# Altium schematic symbol library arthurbenemann-Atmel.SchLib: 651 symbols (part 20 of 28)
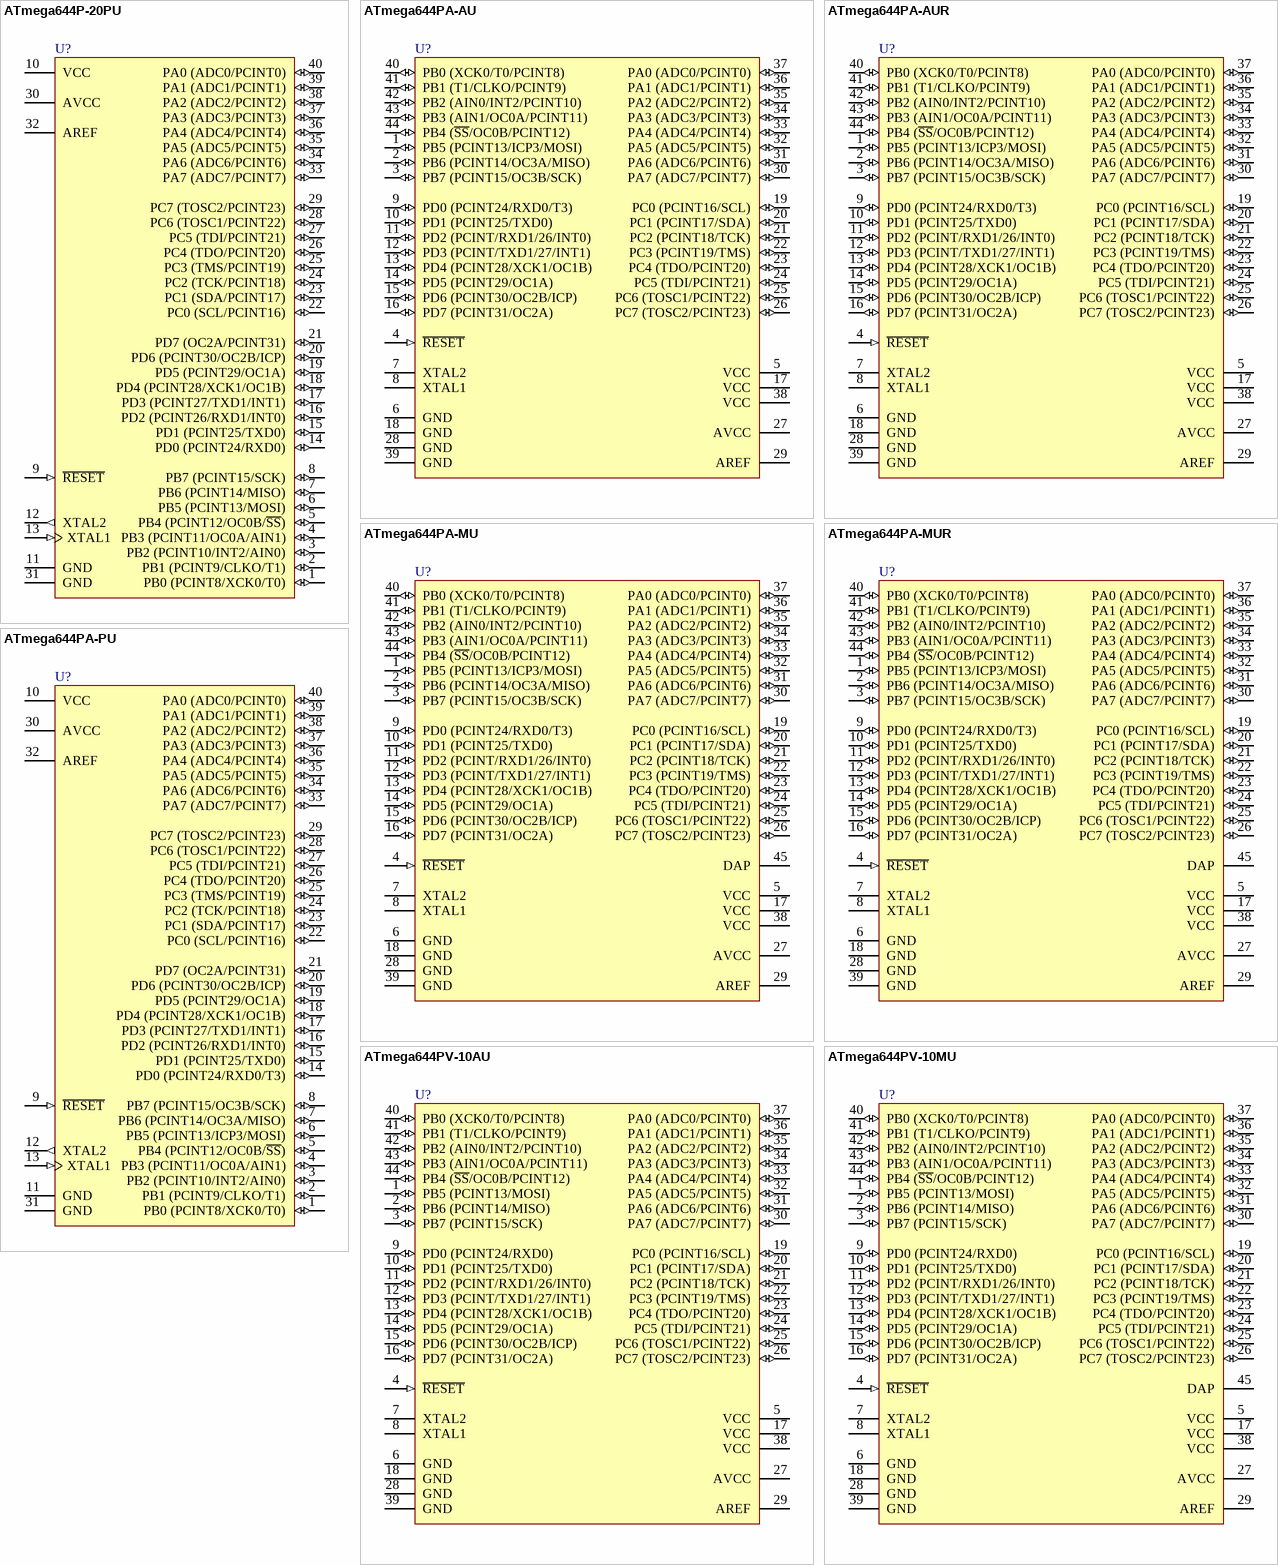
[diagram p105: symbols ATmega644P-20PU to ATmega644PV-10MU]

## ATmega644PV-10AU
designator U?
8-bit AVR Microcontroller, 1.8-5.5V, 10MHz, 64KB Flash, 2KB EEPROM, 4KB SRAM, 44-pin TQFP, Industrial Grade (-40°C to 85°C); DatasheetVersion: revO, Jun-2010; PackageVersion: revC, Oct-2010; PackageReference: 44A; PackageDescription: 44-Pin Plastic Thin Profile Quad Flat Pack, 10 x 10 x 1.0 mm Body, 0.8 mm Pitch (TQFP); Code_JEDEC: MS-026-ACB; ComponentLink1Description: Manufacturer URL; ComponentLink1URL: http://www.atmel.com/; ComponentLink2Description: ATmega164P/324P/644P Datasheet; ComponentLink2URL: http://www.atmel.com/dyn/resources/prod_documents/doc8011.pdf; ComponentLink3Description: ATmega164P/324P/644P Summary; ComponentLink3URL: http://www.atmel.com/dyn/resources/prod_documents/8011S.pdf
footprint 44A_N (Thin QFP, 44-Leads, Body 10x10mm, Pitch 0.8mm, IPC Medium Density)
footprint 44A_L (Thin QFP, 44-Leads, Body 10x10mm, Pitch 0.8mm, IPC High Density)
footprint 44A_M (Thin QFP, 44-Leads, Body 10x10mm, Pitch 0.8mm, IPC Low Density)
pins: 1 PB5 (PCINT13/MOSI) (io), 2 PB6 (PCINT14/MISO) (io), 3 PB7 (PCINT15/SCK) (io), 4 ~{RESET} (in), 5 VCC (power), 6 GND (power), 7 XTAL2, 8 XTAL1, 9 PD0 (PCINT24/RXD0) (io), 10 PD1 (PCINT25/TXD0) (io), 11 PD2 (PCINT/RXD1/26/INT0) (io), 12 PD3 (PCINT/TXD1/27/INT1) (io), 13 PD4 (PCINT28/XCK1/OC1B) (io), 14 PD5 (PCINT29/OC1A) (io), 15 PD6 (PCINT30/OC2B/ICP) (io), 16 PD7 (PCINT31/OC2A) (io), 17 VCC (power), 18 GND (power), 19 PC0 (PCINT16/SCL) (io), 20 PC1 (PCINT17/SDA) (io), 21 PC2 (PCINT18/TCK) (io), 22 PC3 (PCINT19/TMS) (io), 23 PC4 (TDO/PCINT20) (io), 24 PC5 (TDI/PCINT21) (io), 25 PC6 (TOSC1/PCINT22) (io), 26 PC7 (TOSC2/PCINT23) (io), 27 AVCC (power), 28 GND (power), 29 AREF (power), 30 PA7 (ADC7/PCINT7) (io), 31 PA6 (ADC6/PCINT6) (io), 32 PA5 (ADC5/PCINT5) (io), 33 PA4 (ADC4/PCINT4) (io), 34 PA3 (ADC3/PCINT3) (io), 35 PA2 (ADC2/PCINT2) (io), 36 PA1 (ADC1/PCINT1) (io), 37 PA0 (ADC0/PCINT0) (io), 38 VCC (power), 39 GND (power), 40 PB0 (XCK0/T0/PCINT8) (io), 41 PB1 (T1/CLKO/PCINT9) (io), 42 PB2 (AIN0/INT2/PCINT10) (io), 43 PB3 (AIN1/OC0A/PCINT11) (io), 44 PB4 (~{SS}/OC0B/PCINT12) (io)

## ATmega644PV-10MU
designator U?
8-bit AVR Microcontroller, 1.8-5.5V, 10MHz, 64KB Flash, 2KB EEPROM, 4KB SRAM, 44-pin VQFN, Industrial Grade (-40°C to 85°C); DatasheetVersion: revO, Jun-2010; PackageVersion: revH, Sep-2008; PackageReference: 44M1; PackageDescription: 44-Pin Plastic Very Thin Quad Flat No-Lead Package, 7 x 7 x 1.0 mm Body, 0.5 mm Pitch (VQFN), 5.2 mm Exposed Pad; Code_JEDEC: MO-220-VKKD-1; ComponentLink1Description: Manufacturer URL; ComponentLink1URL: http://www.atmel.com/; ComponentLink2Description: ATmega164P/324P/644P Datasheet; ComponentLink2URL: http://www.atmel.com/dyn/resources/prod_documents/doc8011.pdf; ComponentLink3Description: ATmega164P/324P/644P Summary; ComponentLink3URL: http://www.atmel.com/dyn/resources/prod_documents/8011S.pdf
footprint 44M1_N (QFN, 44-Leads, Body 7x7mm, Pitch 0.5mm, Thermal Pad 5.3x5.3mm, IPC Medium Density)
footprint 44M1_L (QFN, 44-Leads, Body 7x7mm, Pitch 0.5mm, Thermal Pad 5.3x5.3mm, IPC High Density)
footprint 44M1_M (QFN, 44-Leads, Body 7x7mm, Pitch 0.5mm, Thermal Pad 5.3x5.3mm, IPC Low Density)
pins: 1 PB5 (PCINT13/MOSI) (io), 2 PB6 (PCINT14/MISO) (io), 3 PB7 (PCINT15/SCK) (io), 4 ~{RESET} (in), 5 VCC (power), 6 GND (power), 7 XTAL2, 8 XTAL1, 9 PD0 (PCINT24/RXD0) (io), 10 PD1 (PCINT25/TXD0) (io), 11 PD2 (PCINT/RXD1/26/INT0) (io), 12 PD3 (PCINT/TXD1/27/INT1) (io), 13 PD4 (PCINT28/XCK1/OC1B) (io), 14 PD5 (PCINT29/OC1A) (io), 15 PD6 (PCINT30/OC2B/ICP) (io), 16 PD7 (PCINT31/OC2A) (io), 17 VCC (power), 18 GND (power), 19 PC0 (PCINT16/SCL) (io), 20 PC1 (PCINT17/SDA) (io), 21 PC2 (PCINT18/TCK) (io), 22 PC3 (PCINT19/TMS) (io), 23 PC4 (TDO/PCINT20) (io), 24 PC5 (TDI/PCINT21) (io), 25 PC6 (TOSC1/PCINT22) (io), 26 PC7 (TOSC2/PCINT23) (io), 27 AVCC (power), 28 GND (power), 29 AREF, 30 PA7 (ADC7/PCINT7) (io), 31 PA6 (ADC6/PCINT6) (io), 32 PA5 (ADC5/PCINT5) (io), 33 PA4 (ADC4/PCINT4) (io), 34 PA3 (ADC3/PCINT3) (io), 35 PA2 (ADC2/PCINT2) (io), 36 PA1 (ADC1/PCINT1) (io), 37 PA0 (ADC0/PCINT0) (io), 38 VCC (power), 39 GND (power), 40 PB0 (XCK0/T0/PCINT8) (io), 41 PB1 (T1/CLKO/PCINT9) (io), 42 PB2 (AIN0/INT2/PCINT10) (io), 43 PB3 (AIN1/OC0A/PCINT11) (io), 44 PB4 (~{SS}/OC0B/PCINT12) (io), 45 DAP (power)

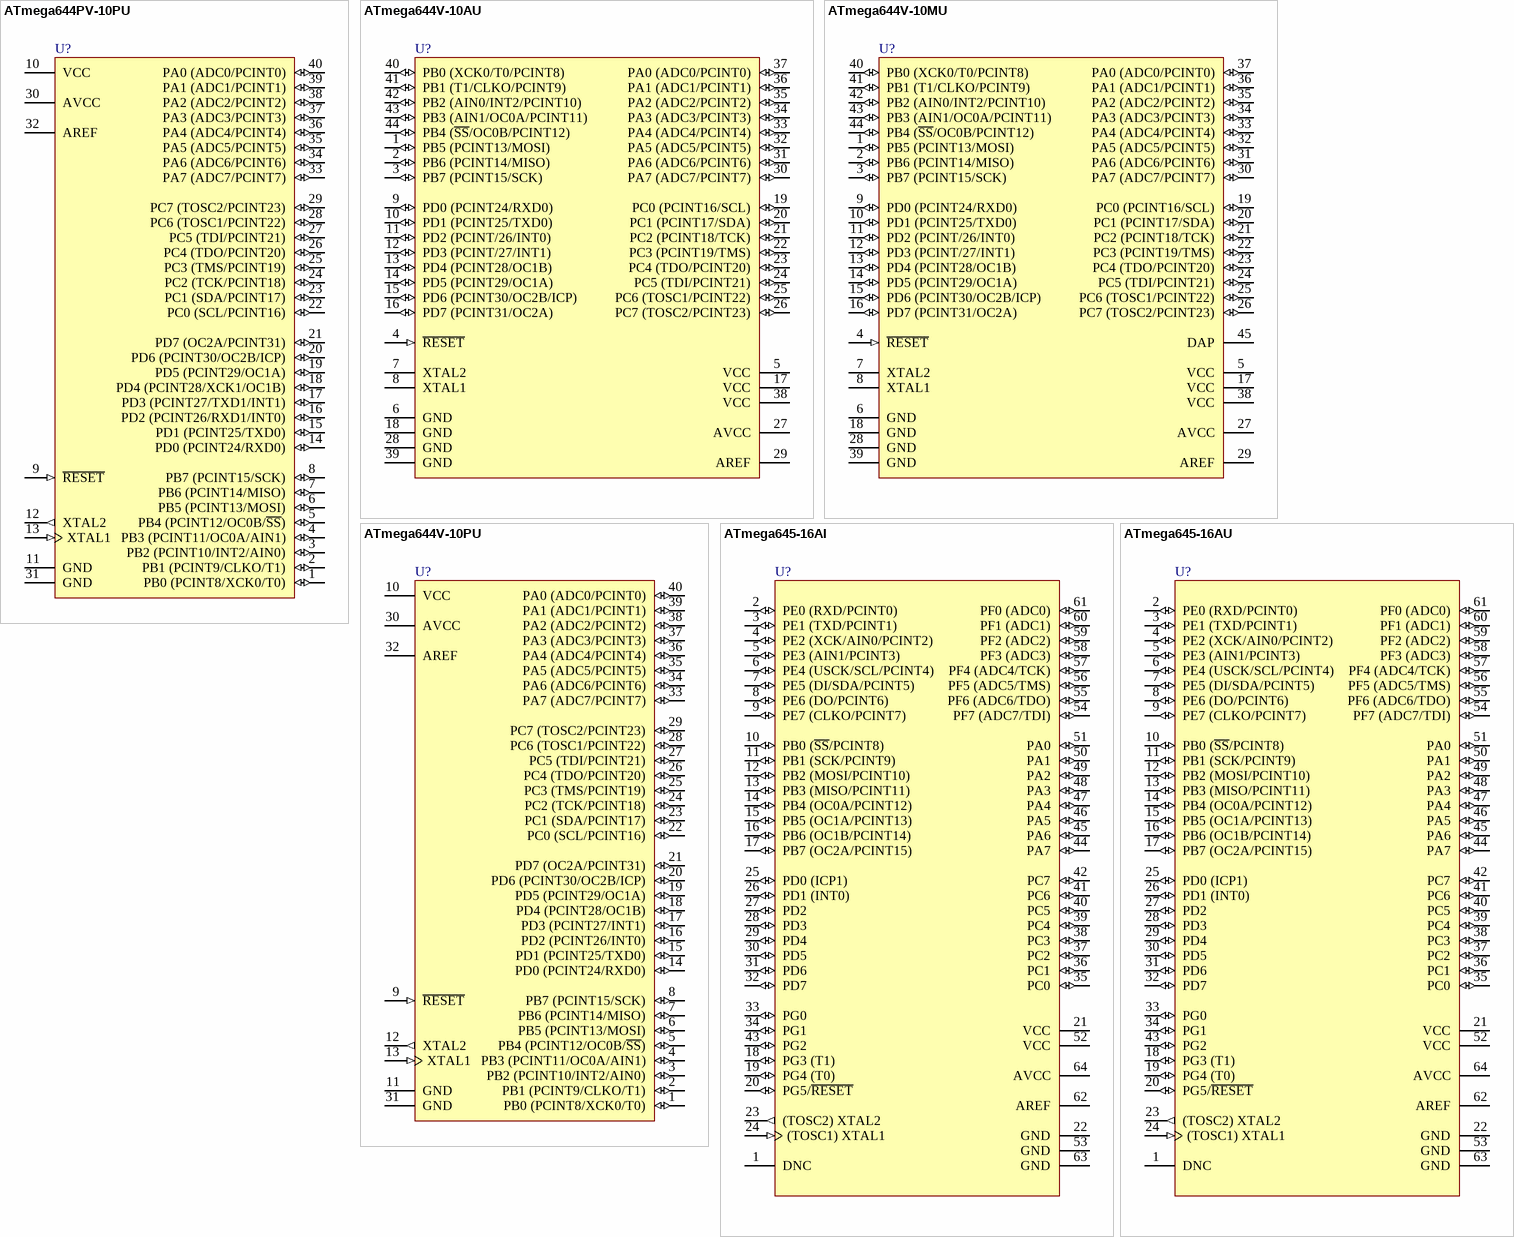
[diagram p53: symbols ATmega644PV-10PU to ATmega645-16AU]

## ATmega644PV-10PU
designator U?
8-bit AVR Microcontroller, 1.8-5.5V, 10MHz, 64KB Flash, 2KB EEPROM, 4KB SRAM, 40-pin PDIP, Industrial Grade (-40°C to 85°C); DatasheetVersion: revO, Jun-2010; PackageVersion: revB, Sep-2001; PackageReference: 40P6; PackageDescription: 40-lead (0.600"/15.24mm Wide) Plastic Dual Inline Package (PDIP); Code_JEDEC: MS-011-AC; ComponentLink1Description: Manufacturer URL; ComponentLink1URL: http://www.atmel.com/; ComponentLink2Description: ATmega164P/324P/644P Datasheet; ComponentLink2URL: http://www.atmel.com/dyn/resources/prod_documents/doc8011.pdf; ComponentLink3Description: ATmega164P/324P/644P Summary; ComponentLink3URL: http://www.atmel.com/dyn/resources/prod_documents/8011S.pdf
footprint 40P6 (DIP, 40-Leads, Row Spacing 15.24mm, Pitch 2.54mm, Body 52.2x13.95mm)
pins: 1 PB0 (PCINT8/XCK0/T0) (io), 2 PB1 (PCINT9/CLKO/T1) (io), 3 PB2 (PCINT10/INT2/AIN0) (io), 4 PB3 (PCINT11/OC0A/AIN1) (io), 5 PB4 (PCINT12/OC0B/~{SS}) (io), 6 PB5 (PCINT13/MOSI) (io), 7 PB6 (PCINT14/MISO) (io), 8 PB7 (PCINT15/SCK) (io), 9 ~{RESET} (in), 10 VCC (power), 11 GND (power), 12 XTAL2 (out), 13 XTAL1 (in), 14 PD0 (PCINT24/RXD0) (io), 15 PD1 (PCINT25/TXD0) (io), 16 PD2 (PCINT26/RXD1/INT0) (io), 17 PD3 (PCINT27/TXD1/INT1) (io), 18 PD4 (PCINT28/XCK1/OC1B) (io), 19 PD5 (PCINT29/OC1A) (io), 20 PD6 (PCINT30/OC2B/ICP) (io), 21 PD7 (OC2A/PCINT31) (io), 22 PC0 (SCL/PCINT16) (io), 23 PC1 (SDA/PCINT17) (io), 24 PC2 (TCK/PCINT18) (io), 25 PC3 (TMS/PCINT19) (io), 26 PC4 (TDO/PCINT20) (io), 27 PC5 (TDI/PCINT21) (io), 28 PC6 (TOSC1/PCINT22) (io), 29 PC7 (TOSC2/PCINT23) (io), 30 AVCC (power), 31 GND (power), 32 AREF (power), 33 PA7 (ADC7/PCINT7) (io), 34 PA6 (ADC6/PCINT6) (io), 35 PA5 (ADC5/PCINT5) (io), 36 PA4 (ADC4/PCINT4) (io), 37 PA3 (ADC3/PCINT3) (io), 38 PA2 (ADC2/PCINT2) (io), 39 PA1 (ADC1/PCINT1) (io), 40 PA0 (ADC0/PCINT0) (io)

## ATmega644V-10AU
designator U?
8-bit AVR Microcontroller, 1.8-5.5V, 10MHz, 64KB Flash, 2KB EEPROM, 4KB SRAM, 44-pin TQFP, Industrial Grade (-40°C to 85°C); DatasheetVersion: revN, Jul-2010; PackageVersion: revC, Oct-2010; PackageReference: 44A; PackageDescription: 44-Pin Plastic Thin Profile Quad Flat Pack, 10 x 10 x 1.0 mm Body, 0.8 mm Pitch (TQFP); Code_JEDEC: MS-026-ACB; ComponentLink1Description: Manufacturer URL; ComponentLink1URL: http://www.atmel.com/; ComponentLink2Description: ATmega644 Datasheet; ComponentLink2URL: http://www.atmel.com/dyn/resources/prod_documents/doc2593.pdf; ComponentLink3Description: ATmega644 Summary; ComponentLink3URL: http://www.atmel.com/dyn/resources/prod_documents/2593S.pdf
footprint 44A_N (Thin QFP, 44-Leads, Body 10x10mm, Pitch 0.8mm, IPC Medium Density)
footprint 44A_L (Thin QFP, 44-Leads, Body 10x10mm, Pitch 0.8mm, IPC High Density)
footprint 44A_M (Thin QFP, 44-Leads, Body 10x10mm, Pitch 0.8mm, IPC Low Density)
pins: 1 PB5 (PCINT13/MOSI) (io), 2 PB6 (PCINT14/MISO) (io), 3 PB7 (PCINT15/SCK) (io), 4 ~{RESET} (in), 5 VCC (power), 6 GND (power), 7 XTAL2, 8 XTAL1, 9 PD0 (PCINT24/RXD0) (io), 10 PD1 (PCINT25/TXD0) (io), 11 PD2 (PCINT/26/INT0) (io), 12 PD3 (PCINT/27/INT1) (io), 13 PD4 (PCINT28/OC1B) (io), 14 PD5 (PCINT29/OC1A) (io), 15 PD6 (PCINT30/OC2B/ICP) (io), 16 PD7 (PCINT31/OC2A) (io), 17 VCC (power), 18 GND (power), 19 PC0 (PCINT16/SCL) (io), 20 PC1 (PCINT17/SDA) (io), 21 PC2 (PCINT18/TCK) (io), 22 PC3 (PCINT19/TMS) (io), 23 PC4 (TDO/PCINT20) (io), 24 PC5 (TDI/PCINT21) (io), 25 PC6 (TOSC1/PCINT22) (io), 26 PC7 (TOSC2/PCINT23) (io), 27 AVCC (power), 28 GND (power), 29 AREF, 30 PA7 (ADC7/PCINT7) (io), 31 PA6 (ADC6/PCINT6) (io), 32 PA5 (ADC5/PCINT5) (io), 33 PA4 (ADC4/PCINT4) (io), 34 PA3 (ADC3/PCINT3) (io), 35 PA2 (ADC2/PCINT2) (io), 36 PA1 (ADC1/PCINT1) (io), 37 PA0 (ADC0/PCINT0) (io), 38 VCC (power), 39 GND (power), 40 PB0 (XCK0/T0/PCINT8) (io), 41 PB1 (T1/CLKO/PCINT9) (io), 42 PB2 (AIN0/INT2/PCINT10) (io), 43 PB3 (AIN1/OC0A/PCINT11) (io), 44 PB4 (~{SS}/OC0B/PCINT12) (io)

## ATmega644V-10MU
designator U?
8-bit AVR Microcontroller, 1.8-5.5V, 10MHz, 64KB Flash, 2KB EEPROM, 4KB SRAM, 44-pin VQFN, Industrial Grade (-40°C to 85°C); DatasheetVersion: revN, Jul-2010; PackageVersion: revH, Sep-2008; PackageReference: 44M1; PackageDescription: 44-Pin Plastic Very Thin Quad Flat No-Lead Package, 7 x 7 x 1.0 mm Body, 0.5 mm Pitch (VQFN), 5.2 mm Exposed Pad; Code_JEDEC: MO-220-VKKD-1; ComponentLink1Description: Manufacturer URL; ComponentLink1URL: http://www.atmel.com/; ComponentLink2Description: ATmega644 Datasheet; ComponentLink2URL: http://www.atmel.com/dyn/resources/prod_documents/doc2593.pdf; ComponentLink3Description: ATmega644 Summary; ComponentLink3URL: http://www.atmel.com/dyn/resources/prod_documents/2593S.pdf
footprint 44M1_N (QFN, 44-Leads, Body 7x7mm, Pitch 0.5mm, Thermal Pad 5.3x5.3mm, IPC Medium Density)
footprint 44M1_L (QFN, 44-Leads, Body 7x7mm, Pitch 0.5mm, Thermal Pad 5.3x5.3mm, IPC High Density)
footprint 44M1_M (QFN, 44-Leads, Body 7x7mm, Pitch 0.5mm, Thermal Pad 5.3x5.3mm, IPC Low Density)
pins: 1 PB5 (PCINT13/MOSI) (io), 2 PB6 (PCINT14/MISO) (io), 3 PB7 (PCINT15/SCK) (io), 4 ~{RESET} (in), 5 VCC (power), 6 GND (power), 7 XTAL2, 8 XTAL1, 9 PD0 (PCINT24/RXD0) (io), 10 PD1 (PCINT25/TXD0) (io), 11 PD2 (PCINT/26/INT0) (io), 12 PD3 (PCINT/27/INT1) (io), 13 PD4 (PCINT28/OC1B) (io), 14 PD5 (PCINT29/OC1A) (io), 15 PD6 (PCINT30/OC2B/ICP) (io), 16 PD7 (PCINT31/OC2A) (io), 17 VCC (power), 18 GND (power), 19 PC0 (PCINT16/SCL) (io), 20 PC1 (PCINT17/SDA) (io), 21 PC2 (PCINT18/TCK) (io), 22 PC3 (PCINT19/TMS) (io), 23 PC4 (TDO/PCINT20) (io), 24 PC5 (TDI/PCINT21) (io), 25 PC6 (TOSC1/PCINT22) (io), 26 PC7 (TOSC2/PCINT23) (io), 27 AVCC (power), 28 GND (power), 29 AREF, 30 PA7 (ADC7/PCINT7) (io), 31 PA6 (ADC6/PCINT6) (io), 32 PA5 (ADC5/PCINT5) (io), 33 PA4 (ADC4/PCINT4) (io), 34 PA3 (ADC3/PCINT3) (io), 35 PA2 (ADC2/PCINT2) (io), 36 PA1 (ADC1/PCINT1) (io), 37 PA0 (ADC0/PCINT0) (io), 38 VCC (power), 39 GND (power), 40 PB0 (XCK0/T0/PCINT8) (io), 41 PB1 (T1/CLKO/PCINT9) (io), 42 PB2 (AIN0/INT2/PCINT10) (io), 43 PB3 (AIN1/OC0A/PCINT11) (io), 44 PB4 (~{SS}/OC0B/PCINT12) (io), 45 DAP (power)

## ATmega644V-10PU
designator U?
8-bit AVR Microcontroller, 1.8-5.5V, 10MHz, 64KB Flash, 2KB EEPROM, 4KB SRAM, 40-pin PDIP, Industrial Grade (-40°C to 85°C); DatasheetVersion: revN, Jul-2010; PackageVersion: revB, Sep-2001; PackageReference: 40P6; PackageDescription: 40-lead (0.600"/15.24mm Wide) Plastic Dual Inline Package (PDIP); Code_JEDEC: MS-011-AC; ComponentLink1Description: Manufacturer URL; ComponentLink1URL: http://www.atmel.com/; ComponentLink2Description: ATmega644 Datasheet; ComponentLink2URL: http://www.atmel.com/dyn/resources/prod_documents/doc2593.pdf; ComponentLink3Description: ATmega644 Summary; ComponentLink3URL: http://www.atmel.com/dyn/resources/prod_documents/2593S.pdf
footprint 40P6 (DIP, 40-Leads, Row Spacing 15.24mm, Pitch 2.54mm, Body 52.2x13.95mm)
pins: 1 PB0 (PCINT8/XCK0/T0) (io), 2 PB1 (PCINT9/CLKO/T1) (io), 3 PB2 (PCINT10/INT2/AIN0) (io), 4 PB3 (PCINT11/OC0A/AIN1) (io), 5 PB4 (PCINT12/OC0B/~{SS}) (io), 6 PB5 (PCINT13/MOSI) (io), 7 PB6 (PCINT14/MISO) (io), 8 PB7 (PCINT15/SCK) (io), 9 ~{RESET} (in), 10 VCC (power), 11 GND (power), 12 XTAL2 (out), 13 XTAL1 (in), 14 PD0 (PCINT24/RXD0) (io), 15 PD1 (PCINT25/TXD0) (io), 16 PD2 (PCINT26/INT0) (io), 17 PD3 (PCINT27/INT1) (io), 18 PD4 (PCINT28/OC1B) (io), 19 PD5 (PCINT29/OC1A) (io), 20 PD6 (PCINT30/OC2B/ICP) (io), 21 PD7 (OC2A/PCINT31) (io), 22 PC0 (SCL/PCINT16) (io), 23 PC1 (SDA/PCINT17) (io), 24 PC2 (TCK/PCINT18) (io), 25 PC3 (TMS/PCINT19) (io), 26 PC4 (TDO/PCINT20) (io), 27 PC5 (TDI/PCINT21) (io), 28 PC6 (TOSC1/PCINT22) (io), 29 PC7 (TOSC2/PCINT23) (io), 30 AVCC (power), 31 GND (power), 32 AREF (power), 33 PA7 (ADC7/PCINT7) (io), 34 PA6 (ADC6/PCINT6) (io), 35 PA5 (ADC5/PCINT5) (io), 36 PA4 (ADC4/PCINT4) (io), 37 PA3 (ADC3/PCINT3) (io), 38 PA2 (ADC2/PCINT2) (io), 39 PA1 (ADC1/PCINT1) (io), 40 PA0 (ADC0/PCINT0) (io)

## ATmega645-16AI
designator U?
8-bit AVR Microcontroller, 2.7-5.5V, 64KB Flash, 2KB EEPROM, 4KB SRAM, 64-pin TQFP, Industrial Grade (-40°C to 85°C); DatasheetVersion: revL, Aug-2007; PackageVersion: revC, Oct-2010; PackageReference: 64A; PackageDescription: 64-Pin Plastic Thin Profile Quad Flat Pack, 14 x 14 x 1.0 mm Body, 0.8 mm Pitch (TQFP); Code_JEDEC: MS-026-AEB; ComponentLink1Description: Manufacturer URL; ComponentLink1URL: http://www.atmel.com/
footprint 64A_N (Thin QFP, 64-Leads, Body 14x14mm, Pitch 0.8mm, IPC Medium Density)
footprint 64A_L (Thin QFP, 64-Leads, Body 14x14mm, Pitch 0.8mm, IPC High Density)
footprint 64A_M (Thin QFP, 64-Leads, Body 14x14mm, Pitch 0.8mm, IPC Low Density)
pins: 1 DNC, 2 PE0 (RXD/PCINT0) (io), 3 PE1 (TXD/PCINT1) (io), 4 PE2 (XCK/AIN0/PCINT2) (io), 5 PE3 (AIN1/PCINT3) (io), 6 PE4 (USCK/SCL/PCINT4) (io), 7 PE5 (DI/SDA/PCINT5) (io), 8 PE6 (DO/PCINT6) (io), 9 PE7 (CLKO/PCINT7) (io), 10 PB0 (~{SS}/PCINT8) (io), 11 PB1 (SCK/PCINT9) (io), 12 PB2 (MOSI/PCINT10) (io), 13 PB3 (MISO/PCINT11) (io), 14 PB4 (OC0A/PCINT12) (io), 15 PB5 (OC1A/PCINT13) (io), 16 PB6 (OC1B/PCINT14) (io), 17 PB7 (OC2A/PCINT15) (io), 18 PG3 (T1) (io), 19 PG4 (T0) (io), 20 PG5/~{RESET} (io), 21 VCC (power), 22 GND (power), 23 (TOSC2) XTAL2 (out), 24 (TOSC1) XTAL1 (in), 25 PD0 (ICP1) (io), 26 PD1 (INT0) (io), 27 PD2 (io), 28 PD3 (io), 29 PD4 (io), 30 PD5 (io), 31 PD6 (io), 32 PD7 (io), 33 PG0 (io), 34 PG1 (io), 35 PC0 (io), 36 PC1 (io), 37 PC2 (io), 38 PC3 (io), 39 PC4 (io), 40 PC5 (io), 41 PC6 (io), 42 PC7 (io), 43 PG2 (io), 44 PA7 (io), 45 PA6 (io), 46 PA5 (io), 47 PA4 (io), 48 PA3 (io), 49 PA2 (io), 50 PA1 (io), 51 PA0 (io), 52 VCC (power), 53 GND (power), 54 PF7 (ADC7/TDI) (io), 55 PF6 (ADC6/TDO) (io), 56 PF5 (ADC5/TMS) (io), 57 PF4 (ADC4/TCK) (io), 58 PF3 (ADC3) (io), 59 PF2 (ADC2) (io), 60 PF1 (ADC1) (io), 61 PF0 (ADC0) (io), 62 AREF (power), 63 GND (power), 64 AVCC (power)

## ATmega645-16AU
designator U?
8-bit AVR Microcontroller, 2.7-5.5V, 64KB Flash, 2KB EEPROM, 4KB SRAM, 64-pin TQFP, Industrial Grade (-40°C to 85°C); DatasheetVersion: revN, May-2011; PackageVersion: revC, Oct-2010; PackageReference: 64A; PackageDescription: 64-Pin Plastic Thin Profile Quad Flat Pack, 14 x 14 x 1.0 mm Body, 0.8 mm Pitch (TQFP); Code_JEDEC: MS-026-AEB; ComponentLink1Description: Manufacturer URL; ComponentLink1URL: http://www.atmel.com/; ComponentLink2Description: ATmega325/3250/645/6450 Datasheet; ComponentLink2URL: http://www.atmel.com/dyn/resources/prod_documents/doc2570.pdf; ComponentLink3Description: ATmega325/3250/645/6540 Summary; ComponentLink3URL: http://www.atmel.com/dyn/resources/prod_documents/2570S.pdf
footprint 64A_N (Thin QFP, 64-Leads, Body 14x14mm, Pitch 0.8mm, IPC Medium Density)
footprint 64A_L (Thin QFP, 64-Leads, Body 14x14mm, Pitch 0.8mm, IPC High Density)
footprint 64A_M (Thin QFP, 64-Leads, Body 14x14mm, Pitch 0.8mm, IPC Low Density)
pins: 1 DNC, 2 PE0 (RXD/PCINT0) (io), 3 PE1 (TXD/PCINT1) (io), 4 PE2 (XCK/AIN0/PCINT2) (io), 5 PE3 (AIN1/PCINT3) (io), 6 PE4 (USCK/SCL/PCINT4) (io), 7 PE5 (DI/SDA/PCINT5) (io), 8 PE6 (DO/PCINT6) (io), 9 PE7 (CLKO/PCINT7) (io), 10 PB0 (~{SS}/PCINT8) (io), 11 PB1 (SCK/PCINT9) (io), 12 PB2 (MOSI/PCINT10) (io), 13 PB3 (MISO/PCINT11) (io), 14 PB4 (OC0A/PCINT12) (io), 15 PB5 (OC1A/PCINT13) (io), 16 PB6 (OC1B/PCINT14) (io), 17 PB7 (OC2A/PCINT15) (io), 18 PG3 (T1) (io), 19 PG4 (T0) (io), 20 PG5/~{RESET} (io), 21 VCC (power), 22 GND (power), 23 (TOSC2) XTAL2 (out), 24 (TOSC1) XTAL1 (in), 25 PD0 (ICP1) (io), 26 PD1 (INT0) (io), 27 PD2 (io), 28 PD3 (io), 29 PD4 (io), 30 PD5 (io), 31 PD6 (io), 32 PD7 (io), 33 PG0 (io), 34 PG1 (io), 35 PC0 (io), 36 PC1 (io), 37 PC2 (io), 38 PC3 (io), 39 PC4 (io), 40 PC5 (io), 41 PC6 (io), 42 PC7 (io), 43 PG2 (io), 44 PA7 (io), 45 PA6 (io), 46 PA5 (io), 47 PA4 (io), 48 PA3 (io), 49 PA2 (io), 50 PA1 (io), 51 PA0 (io), 52 VCC (power), 53 GND (power), 54 PF7 (ADC7/TDI) (io), 55 PF6 (ADC6/TDO) (io), 56 PF5 (ADC5/TMS) (io), 57 PF4 (ADC4/TCK) (io), 58 PF3 (ADC3) (io), 59 PF2 (ADC2) (io), 60 PF1 (ADC1) (io), 61 PF0 (ADC0) (io), 62 AREF (power), 63 GND (power), 64 AVCC (power)

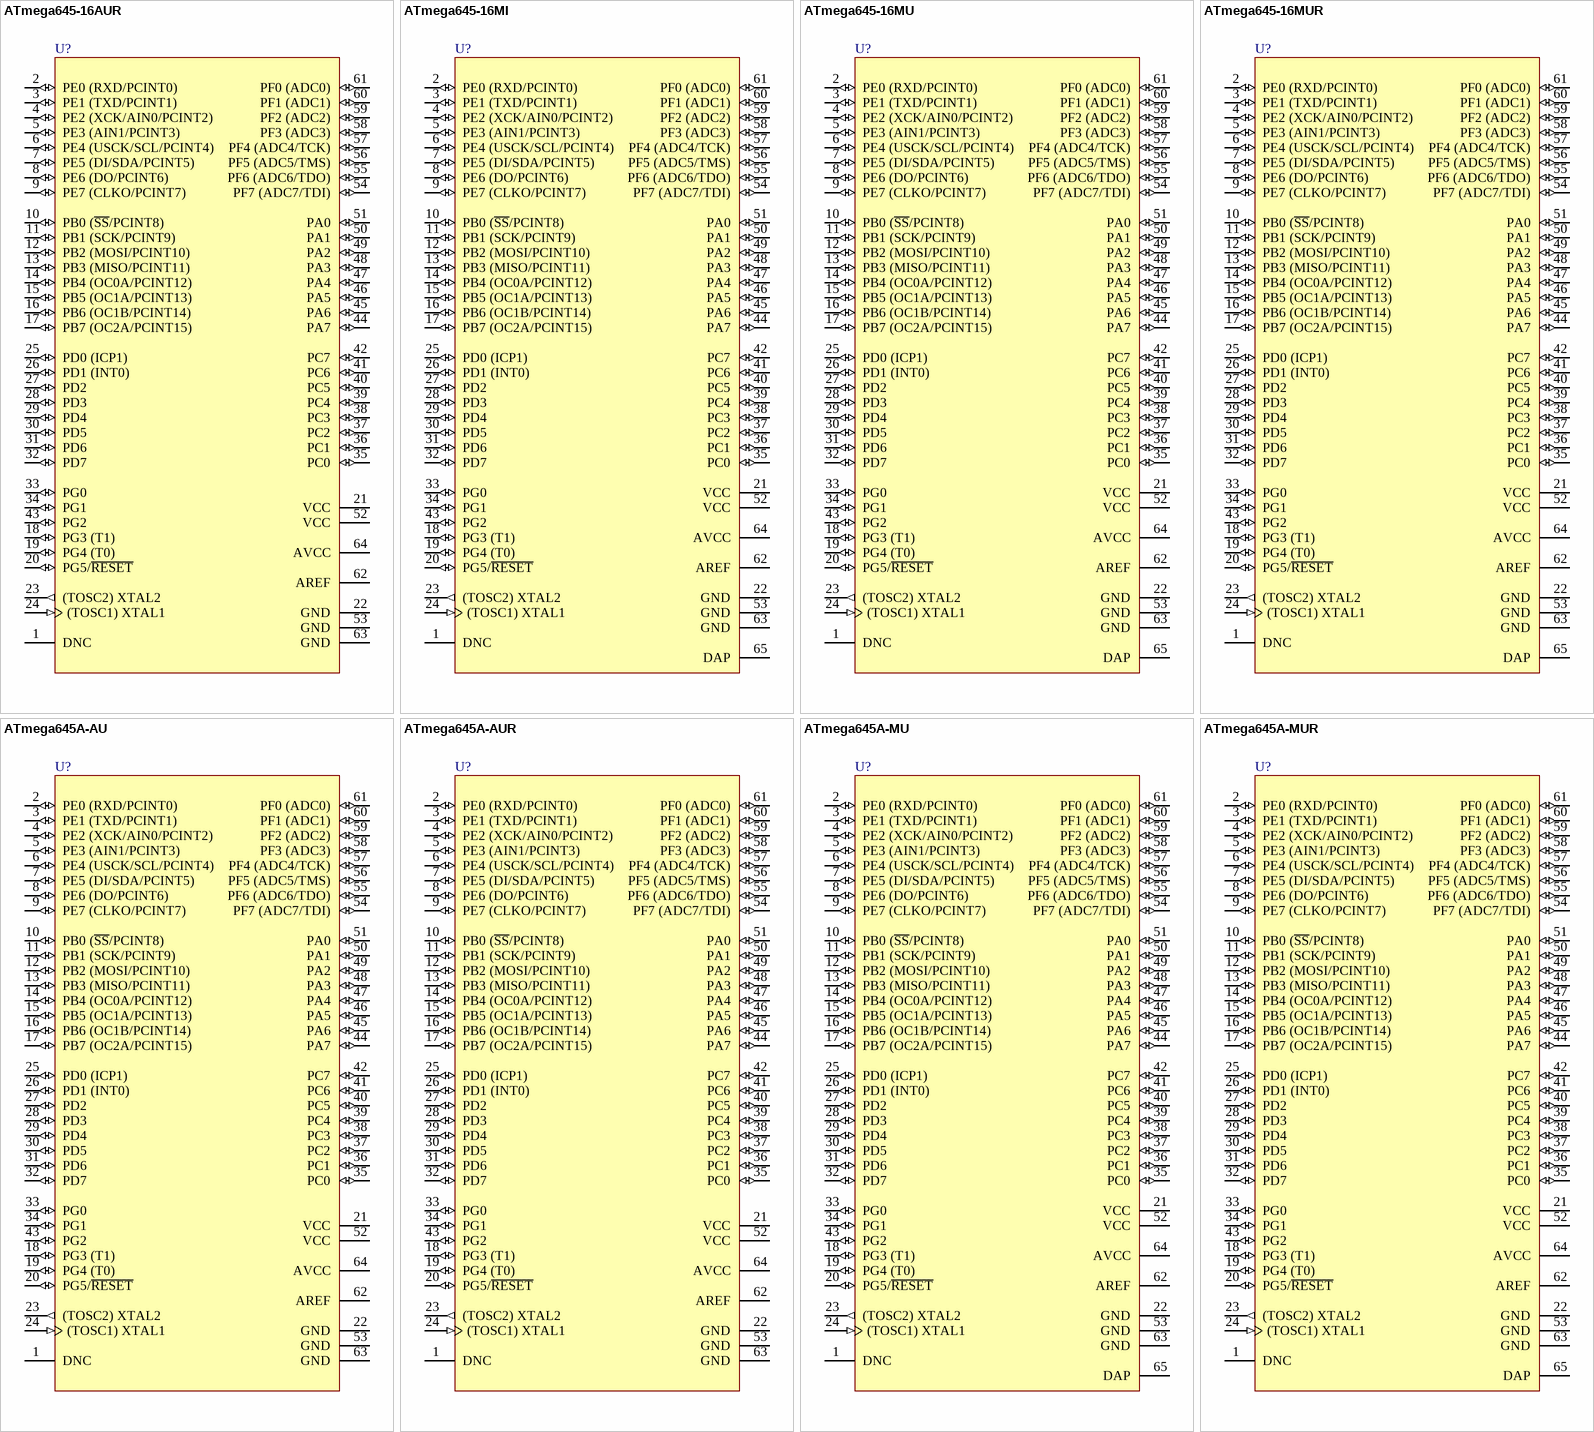
[diagram p54: symbols ATmega645-16AUR to ATmega645A-MUR]

## ATmega645-16AUR
designator U?
8-bit AVR Microcontroller, 2.7-5.5V, 64KB Flash, 2KB EEPROM, 4KB SRAM, 64-pin TQFP, Industrial Grade (-40°C to 85°C), Reel; DatasheetVersion: revN, May-2011; PackageVersion: revC, Oct-2010; PackageReference: 64A; PackageDescription: 64-Pin Plastic Thin Profile Quad Flat Pack, 14 x 14 x 1.0 mm Body, 0.8 mm Pitch (TQFP); Code_JEDEC: MS-026-AEB; ComponentLink1Description: Manufacturer URL; ComponentLink1URL: http://www.atmel.com/; ComponentLink2Description: ATmega325/3250/645/6450 Datasheet; ComponentLink2URL: http://www.atmel.com/dyn/resources/prod_documents/doc2570.pdf; ComponentLink3Description: ATmega325/3250/645/6540 Summary; ComponentLink3URL: http://www.atmel.com/dyn/resources/prod_documents/2570S.pdf
footprint 64A_N (Thin QFP, 64-Leads, Body 14x14mm, Pitch 0.8mm, IPC Medium Density)
footprint 64A_L (Thin QFP, 64-Leads, Body 14x14mm, Pitch 0.8mm, IPC High Density)
footprint 64A_M (Thin QFP, 64-Leads, Body 14x14mm, Pitch 0.8mm, IPC Low Density)
pins: 1 DNC, 2 PE0 (RXD/PCINT0) (io), 3 PE1 (TXD/PCINT1) (io), 4 PE2 (XCK/AIN0/PCINT2) (io), 5 PE3 (AIN1/PCINT3) (io), 6 PE4 (USCK/SCL/PCINT4) (io), 7 PE5 (DI/SDA/PCINT5) (io), 8 PE6 (DO/PCINT6) (io), 9 PE7 (CLKO/PCINT7) (io), 10 PB0 (~{SS}/PCINT8) (io), 11 PB1 (SCK/PCINT9) (io), 12 PB2 (MOSI/PCINT10) (io), 13 PB3 (MISO/PCINT11) (io), 14 PB4 (OC0A/PCINT12) (io), 15 PB5 (OC1A/PCINT13) (io), 16 PB6 (OC1B/PCINT14) (io), 17 PB7 (OC2A/PCINT15) (io), 18 PG3 (T1) (io), 19 PG4 (T0) (io), 20 PG5/~{RESET} (io), 21 VCC (power), 22 GND (power), 23 (TOSC2) XTAL2 (out), 24 (TOSC1) XTAL1 (in), 25 PD0 (ICP1) (io), 26 PD1 (INT0) (io), 27 PD2 (io), 28 PD3 (io), 29 PD4 (io), 30 PD5 (io), 31 PD6 (io), 32 PD7 (io), 33 PG0 (io), 34 PG1 (io), 35 PC0 (io), 36 PC1 (io), 37 PC2 (io), 38 PC3 (io), 39 PC4 (io), 40 PC5 (io), 41 PC6 (io), 42 PC7 (io), 43 PG2 (io), 44 PA7 (io), 45 PA6 (io), 46 PA5 (io), 47 PA4 (io), 48 PA3 (io), 49 PA2 (io), 50 PA1 (io), 51 PA0 (io), 52 VCC (power), 53 GND (power), 54 PF7 (ADC7/TDI) (io), 55 PF6 (ADC6/TDO) (io), 56 PF5 (ADC5/TMS) (io), 57 PF4 (ADC4/TCK) (io), 58 PF3 (ADC3) (io), 59 PF2 (ADC2) (io), 60 PF1 (ADC1) (io), 61 PF0 (ADC0) (io), 62 AREF (power), 63 GND (power), 64 AVCC (power)

## ATmega645-16MI
designator U?
8-bit AVR Microcontroller, 2.7-5.5V, 64KB Flash, 2KB EEPROM, 4KB SRAM, 64-pin MLF, Industrial Grade (-40°C to 85°C); DatasheetVersion: revL, Aug-2007; PackageVersion: revH, Oct-2010; PackageReference: 64M1; PackageDescription: 64-Pin Micro Lead Frame Package (MLF), 9 x 9 x 1.0 mm Body, 0.5 mm Pitch, 5.40 mm Exposed Pad; Code_JEDEC: MO-220-VMMD; ComponentLink1Description: Manufacturer URL; ComponentLink1URL: http://www.atmel.com/
footprint 64M1_N (QFN, 64-Leads, Body 9x9mm, Pitch 0.5mm, Thermal Pad 5.6x5.6mm, IPC Medium Density)
footprint 64M1_L (QFN, 64-Leads, Body 9x9mm, Pitch 0.5mm, Thermal Pad 5.6x5.6mm, IPC High Density)
footprint 64M1_M (QFN, 64-Leads, Body 9x9mm, Pitch 0.5mm, Thermal Pad 5.6x5.6mm, IPC Low Density)
pins: 1 DNC, 2 PE0 (RXD/PCINT0) (io), 3 PE1 (TXD/PCINT1) (io), 4 PE2 (XCK/AIN0/PCINT2) (io), 5 PE3 (AIN1/PCINT3) (io), 6 PE4 (USCK/SCL/PCINT4) (io), 7 PE5 (DI/SDA/PCINT5) (io), 8 PE6 (DO/PCINT6) (io), 9 PE7 (CLKO/PCINT7) (io), 10 PB0 (~{SS}/PCINT8) (io), 11 PB1 (SCK/PCINT9) (io), 12 PB2 (MOSI/PCINT10) (io), 13 PB3 (MISO/PCINT11) (io), 14 PB4 (OC0A/PCINT12) (io), 15 PB5 (OC1A/PCINT13) (io), 16 PB6 (OC1B/PCINT14) (io), 17 PB7 (OC2A/PCINT15) (io), 18 PG3 (T1) (io), 19 PG4 (T0) (io), 20 PG5/~{RESET} (io), 21 VCC (power), 22 GND (power), 23 (TOSC2) XTAL2 (out), 24 (TOSC1) XTAL1 (in), 25 PD0 (ICP1) (io), 26 PD1 (INT0) (io), 27 PD2 (io), 28 PD3 (io), 29 PD4 (io), 30 PD5 (io), 31 PD6 (io), 32 PD7 (io), 33 PG0 (io), 34 PG1 (io), 35 PC0 (io), 36 PC1 (io), 37 PC2 (io), 38 PC3 (io), 39 PC4 (io), 40 PC5 (io), 41 PC6 (io), 42 PC7 (io), 43 PG2 (io), 44 PA7 (io), 45 PA6 (io), 46 PA5 (io), 47 PA4 (io), 48 PA3 (io), 49 PA2 (io), 50 PA1 (io), 51 PA0 (io), 52 VCC (power), 53 GND (power), 54 PF7 (ADC7/TDI) (io), 55 PF6 (ADC6/TDO) (io), 56 PF5 (ADC5/TMS) (io), 57 PF4 (ADC4/TCK) (io), 58 PF3 (ADC3) (io), 59 PF2 (ADC2) (io), 60 PF1 (ADC1) (io), 61 PF0 (ADC0) (io), 62 AREF (power), 63 GND (power), 64 AVCC (power), 65 DAP (power)

## ATmega645-16MU
designator U?
8-bit AVR Microcontroller, 2.7-5.5V, 64KB Flash, 2KB EEPROM, 4KB SRAM, 64-pin MLF, Industrial Grade (-40°C to 85°C); DatasheetVersion: revN, May-2011; PackageVersion: revH, Oct-2010; PackageReference: 64M1; PackageDescription: 64-Pin Micro Lead Frame Package (MLF), 9 x 9 x 1.0 mm Body, 0.5 mm Pitch, 5.40 mm Exposed Pad; Code_JEDEC: MO-220-VMMD; ComponentLink1Description: Manufacturer URL; ComponentLink1URL: http://www.atmel.com/; ComponentLink2Description: ATmega325/3250/645/6450 Datasheet; ComponentLink2URL: http://www.atmel.com/dyn/resources/prod_documents/doc2570.pdf; ComponentLink3Description: ATmega325/3250/645/6540 Summary; ComponentLink3URL: http://www.atmel.com/dyn/resources/prod_documents/2570S.pdf
footprint 64M1_N (QFN, 64-Leads, Body 9x9mm, Pitch 0.5mm, Thermal Pad 5.6x5.6mm, IPC Medium Density)
footprint 64M1_L (QFN, 64-Leads, Body 9x9mm, Pitch 0.5mm, Thermal Pad 5.6x5.6mm, IPC High Density)
footprint 64M1_M (QFN, 64-Leads, Body 9x9mm, Pitch 0.5mm, Thermal Pad 5.6x5.6mm, IPC Low Density)
pins: 1 DNC, 2 PE0 (RXD/PCINT0) (io), 3 PE1 (TXD/PCINT1) (io), 4 PE2 (XCK/AIN0/PCINT2) (io), 5 PE3 (AIN1/PCINT3) (io), 6 PE4 (USCK/SCL/PCINT4) (io), 7 PE5 (DI/SDA/PCINT5) (io), 8 PE6 (DO/PCINT6) (io), 9 PE7 (CLKO/PCINT7) (io), 10 PB0 (~{SS}/PCINT8) (io), 11 PB1 (SCK/PCINT9) (io), 12 PB2 (MOSI/PCINT10) (io), 13 PB3 (MISO/PCINT11) (io), 14 PB4 (OC0A/PCINT12) (io), 15 PB5 (OC1A/PCINT13) (io), 16 PB6 (OC1B/PCINT14) (io), 17 PB7 (OC2A/PCINT15) (io), 18 PG3 (T1) (io), 19 PG4 (T0) (io), 20 PG5/~{RESET} (io), 21 VCC (power), 22 GND (power), 23 (TOSC2) XTAL2 (out), 24 (TOSC1) XTAL1 (in), 25 PD0 (ICP1) (io), 26 PD1 (INT0) (io), 27 PD2 (io), 28 PD3 (io), 29 PD4 (io), 30 PD5 (io), 31 PD6 (io), 32 PD7 (io), 33 PG0 (io), 34 PG1 (io), 35 PC0 (io), 36 PC1 (io), 37 PC2 (io), 38 PC3 (io), 39 PC4 (io), 40 PC5 (io), 41 PC6 (io), 42 PC7 (io), 43 PG2 (io), 44 PA7 (io), 45 PA6 (io), 46 PA5 (io), 47 PA4 (io), 48 PA3 (io), 49 PA2 (io), 50 PA1 (io), 51 PA0 (io), 52 VCC (power), 53 GND (power), 54 PF7 (ADC7/TDI) (io), 55 PF6 (ADC6/TDO) (io), 56 PF5 (ADC5/TMS) (io), 57 PF4 (ADC4/TCK) (io), 58 PF3 (ADC3) (io), 59 PF2 (ADC2) (io), 60 PF1 (ADC1) (io), 61 PF0 (ADC0) (io), 62 AREF (power), 63 GND (power), 64 AVCC (power), 65 DAP (power)

## ATmega645-16MUR
designator U?
8-bit AVR Microcontroller, 2.7-5.5V, 64KB Flash, 2KB EEPROM, 4KB SRAM, 64-pin MLF, Industrial Grade (-40°C to 85°C), Reel; DatasheetVersion: revN, May-2011; PackageVersion: revH, Oct-2010; PackageReference: 64M1; PackageDescription: 64-Pin Micro Lead Frame Package (MLF), 9 x 9 x 1.0 mm Body, 0.5 mm Pitch, 5.40 mm Exposed Pad; Code_JEDEC: MO-220-VMMD; ComponentLink1Description: Manufacturer URL; ComponentLink1URL: http://www.atmel.com/; ComponentLink2Description: ATmega325/3250/645/6450 Datasheet; ComponentLink2URL: http://www.atmel.com/dyn/resources/prod_documents/doc2570.pdf; ComponentLink3Description: ATmega325/3250/645/6540 Summary; ComponentLink3URL: http://www.atmel.com/dyn/resources/prod_documents/2570S.pdf
footprint 64M1_N (QFN, 64-Leads, Body 9x9mm, Pitch 0.5mm, Thermal Pad 5.6x5.6mm, IPC Medium Density)
footprint 64M1_L (QFN, 64-Leads, Body 9x9mm, Pitch 0.5mm, Thermal Pad 5.6x5.6mm, IPC High Density)
footprint 64M1_M (QFN, 64-Leads, Body 9x9mm, Pitch 0.5mm, Thermal Pad 5.6x5.6mm, IPC Low Density)
pins: 1 DNC, 2 PE0 (RXD/PCINT0) (io), 3 PE1 (TXD/PCINT1) (io), 4 PE2 (XCK/AIN0/PCINT2) (io), 5 PE3 (AIN1/PCINT3) (io), 6 PE4 (USCK/SCL/PCINT4) (io), 7 PE5 (DI/SDA/PCINT5) (io), 8 PE6 (DO/PCINT6) (io), 9 PE7 (CLKO/PCINT7) (io), 10 PB0 (~{SS}/PCINT8) (io), 11 PB1 (SCK/PCINT9) (io), 12 PB2 (MOSI/PCINT10) (io), 13 PB3 (MISO/PCINT11) (io), 14 PB4 (OC0A/PCINT12) (io), 15 PB5 (OC1A/PCINT13) (io), 16 PB6 (OC1B/PCINT14) (io), 17 PB7 (OC2A/PCINT15) (io), 18 PG3 (T1) (io), 19 PG4 (T0) (io), 20 PG5/~{RESET} (io), 21 VCC (power), 22 GND (power), 23 (TOSC2) XTAL2 (out), 24 (TOSC1) XTAL1 (in), 25 PD0 (ICP1) (io), 26 PD1 (INT0) (io), 27 PD2 (io), 28 PD3 (io), 29 PD4 (io), 30 PD5 (io), 31 PD6 (io), 32 PD7 (io), 33 PG0 (io), 34 PG1 (io), 35 PC0 (io), 36 PC1 (io), 37 PC2 (io), 38 PC3 (io), 39 PC4 (io), 40 PC5 (io), 41 PC6 (io), 42 PC7 (io), 43 PG2 (io), 44 PA7 (io), 45 PA6 (io), 46 PA5 (io), 47 PA4 (io), 48 PA3 (io), 49 PA2 (io), 50 PA1 (io), 51 PA0 (io), 52 VCC (power), 53 GND (power), 54 PF7 (ADC7/TDI) (io), 55 PF6 (ADC6/TDO) (io), 56 PF5 (ADC5/TMS) (io), 57 PF4 (ADC4/TCK) (io), 58 PF3 (ADC3) (io), 59 PF2 (ADC2) (io), 60 PF1 (ADC1) (io), 61 PF0 (ADC0) (io), 62 AREF (power), 63 GND (power), 64 AVCC (power), 65 DAP (power)

## ATmega645A-AU
designator U?
8-bit AVR Microcontroller, 1.8-5.5V, 64KB Flash, 2KB EEPROM, 4KB SRAM, 64-pin TQFP, Industrial Grade (-40°C to 85°C); DatasheetVersion: revD, Jun-2011; PackageVersion: revC, Oct-2010; PackageReference: 64A; PackageDescription: 64-Pin Plastic Thin Profile Quad Flat Pack, 14 x 14 x 1.0 mm Body, 0.8 mm Pitch (TQFP); Code_JEDEC: MS-026-AEB; ComponentLink1Description: Manufacturer URL; ComponentLink1URL: http://www.atmel.com/; ComponentLink2Description: ATmega165A/PA/325A/PA/3250A/PA/645A/P/6450A/P Datasheet; ComponentLink2URL: http://www.atmel.com/dyn/resources/prod_documents/doc8285.pdf; ComponentLink3Description: ATmega165A/PA/325A/PA/3250A/PA/645A/P/6450A/P Summary; ComponentLink3URL: http://www.atmel.com/dyn/resources/prod_documents/8285S.pdf
footprint 64A_N (Thin QFP, 64-Leads, Body 14x14mm, Pitch 0.8mm, IPC Medium Density)
footprint 64A_L (Thin QFP, 64-Leads, Body 14x14mm, Pitch 0.8mm, IPC High Density)
footprint 64A_M (Thin QFP, 64-Leads, Body 14x14mm, Pitch 0.8mm, IPC Low Density)
pins: 1 DNC, 2 PE0 (RXD/PCINT0) (io), 3 PE1 (TXD/PCINT1) (io), 4 PE2 (XCK/AIN0/PCINT2) (io), 5 PE3 (AIN1/PCINT3) (io), 6 PE4 (USCK/SCL/PCINT4) (io), 7 PE5 (DI/SDA/PCINT5) (io), 8 PE6 (DO/PCINT6) (io), 9 PE7 (CLKO/PCINT7) (io), 10 PB0 (~{SS}/PCINT8) (io), 11 PB1 (SCK/PCINT9) (io), 12 PB2 (MOSI/PCINT10) (io), 13 PB3 (MISO/PCINT11) (io), 14 PB4 (OC0A/PCINT12) (io), 15 PB5 (OC1A/PCINT13) (io), 16 PB6 (OC1B/PCINT14) (io), 17 PB7 (OC2A/PCINT15) (io), 18 PG3 (T1) (io), 19 PG4 (T0) (io), 20 PG5/~{RESET} (io), 21 VCC (power), 22 GND (power), 23 (TOSC2) XTAL2 (out), 24 (TOSC1) XTAL1 (in), 25 PD0 (ICP1) (io), 26 PD1 (INT0) (io), 27 PD2 (io), 28 PD3 (io), 29 PD4 (io), 30 PD5 (io), 31 PD6 (io), 32 PD7 (io), 33 PG0 (io), 34 PG1 (io), 35 PC0 (io), 36 PC1 (io), 37 PC2 (io), 38 PC3 (io), 39 PC4 (io), 40 PC5 (io), 41 PC6 (io), 42 PC7 (io), 43 PG2 (io), 44 PA7 (io), 45 PA6 (io), 46 PA5 (io), 47 PA4 (io), 48 PA3 (io), 49 PA2 (io), 50 PA1 (io), 51 PA0 (io), 52 VCC (power), 53 GND (power), 54 PF7 (ADC7/TDI) (io), 55 PF6 (ADC6/TDO) (io), 56 PF5 (ADC5/TMS) (io), 57 PF4 (ADC4/TCK) (io), 58 PF3 (ADC3) (io), 59 PF2 (ADC2) (io), 60 PF1 (ADC1) (io), 61 PF0 (ADC0) (io), 62 AREF (power), 63 GND (power), 64 AVCC (power)

## ATmega645A-AUR
designator U?
8-bit AVR Microcontroller, 1.8-5.5V, 64KB Flash, 2KB EEPROM, 4KB SRAM, 64-pin TQFP, Industrial Grade (-40°C to 85°C), Reel; DatasheetVersion: revD, Jun-2011; PackageVersion: revC, Oct-2010; PackageReference: 64A; PackageDescription: 64-Pin Plastic Thin Profile Quad Flat Pack, 14 x 14 x 1.0 mm Body, 0.8 mm Pitch (TQFP); Code_JEDEC: MS-026-AEB; ComponentLink1Description: Manufacturer URL; ComponentLink1URL: http://www.atmel.com/; ComponentLink2Description: ATmega165A/PA/325A/PA/3250A/PA/645A/P/6450A/P Datasheet; ComponentLink2URL: http://www.atmel.com/dyn/resources/prod_documents/doc8285.pdf; ComponentLink3Description: ATmega165A/PA/325A/PA/3250A/PA/645A/P/6450A/P Summary; ComponentLink3URL: http://www.atmel.com/dyn/resources/prod_documents/8285S.pdf
footprint 64A_N (Thin QFP, 64-Leads, Body 14x14mm, Pitch 0.8mm, IPC Medium Density)
footprint 64A_L (Thin QFP, 64-Leads, Body 14x14mm, Pitch 0.8mm, IPC High Density)
footprint 64A_M (Thin QFP, 64-Leads, Body 14x14mm, Pitch 0.8mm, IPC Low Density)
pins: 1 DNC, 2 PE0 (RXD/PCINT0) (io), 3 PE1 (TXD/PCINT1) (io), 4 PE2 (XCK/AIN0/PCINT2) (io), 5 PE3 (AIN1/PCINT3) (io), 6 PE4 (USCK/SCL/PCINT4) (io), 7 PE5 (DI/SDA/PCINT5) (io), 8 PE6 (DO/PCINT6) (io), 9 PE7 (CLKO/PCINT7) (io), 10 PB0 (~{SS}/PCINT8) (io), 11 PB1 (SCK/PCINT9) (io), 12 PB2 (MOSI/PCINT10) (io), 13 PB3 (MISO/PCINT11) (io), 14 PB4 (OC0A/PCINT12) (io), 15 PB5 (OC1A/PCINT13) (io), 16 PB6 (OC1B/PCINT14) (io), 17 PB7 (OC2A/PCINT15) (io), 18 PG3 (T1) (io), 19 PG4 (T0) (io), 20 PG5/~{RESET} (io), 21 VCC (power), 22 GND (power), 23 (TOSC2) XTAL2 (out), 24 (TOSC1) XTAL1 (in), 25 PD0 (ICP1) (io), 26 PD1 (INT0) (io), 27 PD2 (io), 28 PD3 (io), 29 PD4 (io), 30 PD5 (io), 31 PD6 (io), 32 PD7 (io), 33 PG0 (io), 34 PG1 (io), 35 PC0 (io), 36 PC1 (io), 37 PC2 (io), 38 PC3 (io), 39 PC4 (io), 40 PC5 (io), 41 PC6 (io), 42 PC7 (io), 43 PG2 (io), 44 PA7 (io), 45 PA6 (io), 46 PA5 (io), 47 PA4 (io), 48 PA3 (io), 49 PA2 (io), 50 PA1 (io), 51 PA0 (io), 52 VCC (power), 53 GND (power), 54 PF7 (ADC7/TDI) (io), 55 PF6 (ADC6/TDO) (io), 56 PF5 (ADC5/TMS) (io), 57 PF4 (ADC4/TCK) (io), 58 PF3 (ADC3) (io), 59 PF2 (ADC2) (io), 60 PF1 (ADC1) (io), 61 PF0 (ADC0) (io), 62 AREF (power), 63 GND (power), 64 AVCC (power)

## ATmega645A-MU
designator U?
8-bit AVR Microcontroller, 1.8-5.5V, 64KB Flash, 2KB EEPROM, 4KB SRAM, 64-pin MLF, Industrial Grade (-40°C to 85°C); DatasheetVersion: revD, Jun-2011; PackageVersion: revH, Oct-2010; PackageReference: 64M1; PackageDescription: 64-Pin Micro Lead Frame Package (MLF), 9 x 9 x 1.0 mm Body, 0.5 mm Pitch, 5.40 mm Exposed Pad; Code_JEDEC: MO-220-VMMD; ComponentLink1Description: Manufacturer URL; ComponentLink1URL: http://www.atmel.com/; ComponentLink2Description: ATmega165A/PA/325A/PA/3250A/PA/645A/P/6450A/P Datasheet; ComponentLink2URL: http://www.atmel.com/dyn/resources/prod_documents/doc8285.pdf; ComponentLink3Description: ATmega165A/PA/325A/PA/3250A/PA/645A/P/6450A/P Summary; ComponentLink3URL: http://www.atmel.com/dyn/resources/prod_documents/8285S.pdf
footprint 64M1_N (QFN, 64-Leads, Body 9x9mm, Pitch 0.5mm, Thermal Pad 5.6x5.6mm, IPC Medium Density)
footprint 64M1_L (QFN, 64-Leads, Body 9x9mm, Pitch 0.5mm, Thermal Pad 5.6x5.6mm, IPC High Density)
footprint 64M1_M (QFN, 64-Leads, Body 9x9mm, Pitch 0.5mm, Thermal Pad 5.6x5.6mm, IPC Low Density)
pins: 1 DNC, 2 PE0 (RXD/PCINT0) (io), 3 PE1 (TXD/PCINT1) (io), 4 PE2 (XCK/AIN0/PCINT2) (io), 5 PE3 (AIN1/PCINT3) (io), 6 PE4 (USCK/SCL/PCINT4) (io), 7 PE5 (DI/SDA/PCINT5) (io), 8 PE6 (DO/PCINT6) (io), 9 PE7 (CLKO/PCINT7) (io), 10 PB0 (~{SS}/PCINT8) (io), 11 PB1 (SCK/PCINT9) (io), 12 PB2 (MOSI/PCINT10) (io), 13 PB3 (MISO/PCINT11) (io), 14 PB4 (OC0A/PCINT12) (io), 15 PB5 (OC1A/PCINT13) (io), 16 PB6 (OC1B/PCINT14) (io), 17 PB7 (OC2A/PCINT15) (io), 18 PG3 (T1) (io), 19 PG4 (T0) (io), 20 PG5/~{RESET} (io), 21 VCC (power), 22 GND (power), 23 (TOSC2) XTAL2 (out), 24 (TOSC1) XTAL1 (in), 25 PD0 (ICP1) (io), 26 PD1 (INT0) (io), 27 PD2 (io), 28 PD3 (io), 29 PD4 (io), 30 PD5 (io), 31 PD6 (io), 32 PD7 (io), 33 PG0 (io), 34 PG1 (io), 35 PC0 (io), 36 PC1 (io), 37 PC2 (io), 38 PC3 (io), 39 PC4 (io), 40 PC5 (io), 41 PC6 (io), 42 PC7 (io), 43 PG2 (io), 44 PA7 (io), 45 PA6 (io), 46 PA5 (io), 47 PA4 (io), 48 PA3 (io), 49 PA2 (io), 50 PA1 (io), 51 PA0 (io), 52 VCC (power), 53 GND (power), 54 PF7 (ADC7/TDI) (io), 55 PF6 (ADC6/TDO) (io), 56 PF5 (ADC5/TMS) (io), 57 PF4 (ADC4/TCK) (io), 58 PF3 (ADC3) (io), 59 PF2 (ADC2) (io), 60 PF1 (ADC1) (io), 61 PF0 (ADC0) (io), 62 AREF (power), 63 GND (power), 64 AVCC (power), 65 DAP (power)

## ATmega645A-MUR
designator U?
8-bit AVR Microcontroller, 1.8-5.5V, 64KB Flash, 2KB EEPROM, 4KB SRAM, 64-pin MLF, Industrial Grade (-40°C to 85°C), Reel; DatasheetVersion: revD, Jun-2011; PackageVersion: revH, Oct-2010; PackageReference: 64M1; PackageDescription: 64-Pin Micro Lead Frame Package (MLF), 9 x 9 x 1.0 mm Body, 0.5 mm Pitch, 5.40 mm Exposed Pad; Code_JEDEC: MO-220-VMMD; ComponentLink1Description: Manufacturer URL; ComponentLink1URL: http://www.atmel.com/; ComponentLink2Description: ATmega165A/PA/325A/PA/3250A/PA/645A/P/6450A/P Datasheet; ComponentLink2URL: http://www.atmel.com/dyn/resources/prod_documents/doc8285.pdf; ComponentLink3Description: ATmega165A/PA/325A/PA/3250A/PA/645A/P/6450A/P Summary; ComponentLink3URL: http://www.atmel.com/dyn/resources/prod_documents/8285S.pdf
footprint 64M1_N (QFN, 64-Leads, Body 9x9mm, Pitch 0.5mm, Thermal Pad 5.6x5.6mm, IPC Medium Density)
footprint 64M1_L (QFN, 64-Leads, Body 9x9mm, Pitch 0.5mm, Thermal Pad 5.6x5.6mm, IPC High Density)
footprint 64M1_M (QFN, 64-Leads, Body 9x9mm, Pitch 0.5mm, Thermal Pad 5.6x5.6mm, IPC Low Density)
pins: 1 DNC, 2 PE0 (RXD/PCINT0) (io), 3 PE1 (TXD/PCINT1) (io), 4 PE2 (XCK/AIN0/PCINT2) (io), 5 PE3 (AIN1/PCINT3) (io), 6 PE4 (USCK/SCL/PCINT4) (io), 7 PE5 (DI/SDA/PCINT5) (io), 8 PE6 (DO/PCINT6) (io), 9 PE7 (CLKO/PCINT7) (io), 10 PB0 (~{SS}/PCINT8) (io), 11 PB1 (SCK/PCINT9) (io), 12 PB2 (MOSI/PCINT10) (io), 13 PB3 (MISO/PCINT11) (io), 14 PB4 (OC0A/PCINT12) (io), 15 PB5 (OC1A/PCINT13) (io), 16 PB6 (OC1B/PCINT14) (io), 17 PB7 (OC2A/PCINT15) (io), 18 PG3 (T1) (io), 19 PG4 (T0) (io), 20 PG5/~{RESET} (io), 21 VCC (power), 22 GND (power), 23 (TOSC2) XTAL2 (out), 24 (TOSC1) XTAL1 (in), 25 PD0 (ICP1) (io), 26 PD1 (INT0) (io), 27 PD2 (io), 28 PD3 (io), 29 PD4 (io), 30 PD5 (io), 31 PD6 (io), 32 PD7 (io), 33 PG0 (io), 34 PG1 (io), 35 PC0 (io), 36 PC1 (io), 37 PC2 (io), 38 PC3 (io), 39 PC4 (io), 40 PC5 (io), 41 PC6 (io), 42 PC7 (io), 43 PG2 (io), 44 PA7 (io), 45 PA6 (io), 46 PA5 (io), 47 PA4 (io), 48 PA3 (io), 49 PA2 (io), 50 PA1 (io), 51 PA0 (io), 52 VCC (power), 53 GND (power), 54 PF7 (ADC7/TDI) (io), 55 PF6 (ADC6/TDO) (io), 56 PF5 (ADC5/TMS) (io), 57 PF4 (ADC4/TCK) (io), 58 PF3 (ADC3) (io), 59 PF2 (ADC2) (io), 60 PF1 (ADC1) (io), 61 PF0 (ADC0) (io), 62 AREF (power), 63 GND (power), 64 AVCC (power), 65 DAP (power)

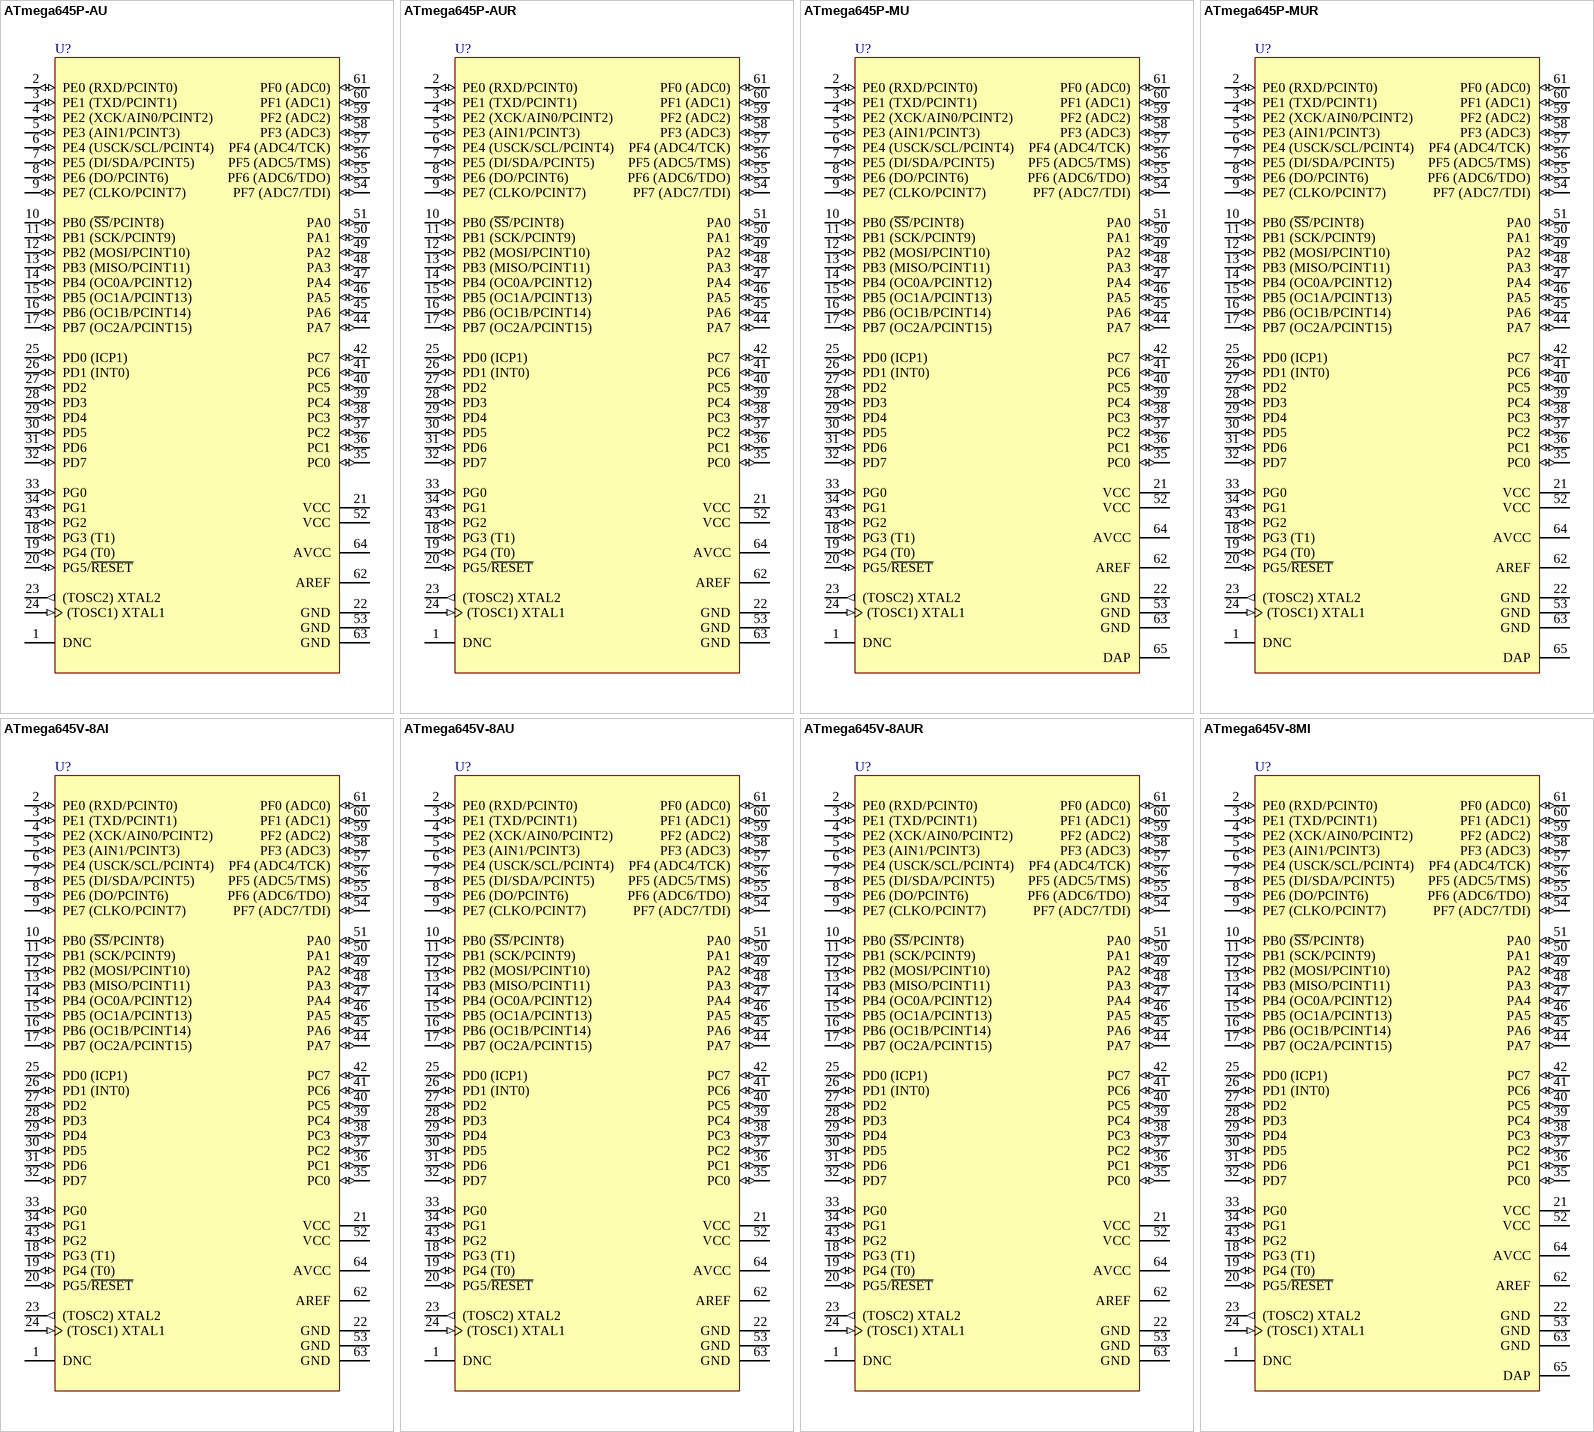
[diagram p55: symbols ATmega645P-AU to ATmega645V-8MI]

## ATmega645P-AU
designator U?
8-bit AVR Microcontroller, 1.8-5.5V, 64KB Flash, 2KB EEPROM, 4KB SRAM, 64-pin TQFP, Industrial Grade (-40°C to 85°C); DatasheetVersion: revD, Jun-2011; PackageVersion: revC, Oct-2010; PackageReference: 64A; PackageDescription: 64-Pin Plastic Thin Profile Quad Flat Pack, 14 x 14 x 1.0 mm Body, 0.8 mm Pitch (TQFP); Code_JEDEC: MS-026-AEB; ComponentLink1Description: Manufacturer URL; ComponentLink1URL: http://www.atmel.com/; ComponentLink2Description: ATmega165A/PA/325A/PA/3250A/PA/645A/P/6450A/P Datasheet; ComponentLink2URL: http://www.atmel.com/dyn/resources/prod_documents/doc8285.pdf; ComponentLink3Description: ATmega165A/PA/325A/PA/3250A/PA/645A/P/6450A/P Summary; ComponentLink3URL: http://www.atmel.com/dyn/resources/prod_documents/8285S.pdf
footprint 64A_N (Thin QFP, 64-Leads, Body 14x14mm, Pitch 0.8mm, IPC Medium Density)
footprint 64A_L (Thin QFP, 64-Leads, Body 14x14mm, Pitch 0.8mm, IPC High Density)
footprint 64A_M (Thin QFP, 64-Leads, Body 14x14mm, Pitch 0.8mm, IPC Low Density)
pins: 1 DNC, 2 PE0 (RXD/PCINT0) (io), 3 PE1 (TXD/PCINT1) (io), 4 PE2 (XCK/AIN0/PCINT2) (io), 5 PE3 (AIN1/PCINT3) (io), 6 PE4 (USCK/SCL/PCINT4) (io), 7 PE5 (DI/SDA/PCINT5) (io), 8 PE6 (DO/PCINT6) (io), 9 PE7 (CLKO/PCINT7) (io), 10 PB0 (~{SS}/PCINT8) (io), 11 PB1 (SCK/PCINT9) (io), 12 PB2 (MOSI/PCINT10) (io), 13 PB3 (MISO/PCINT11) (io), 14 PB4 (OC0A/PCINT12) (io), 15 PB5 (OC1A/PCINT13) (io), 16 PB6 (OC1B/PCINT14) (io), 17 PB7 (OC2A/PCINT15) (io), 18 PG3 (T1) (io), 19 PG4 (T0) (io), 20 PG5/~{RESET} (io), 21 VCC (power), 22 GND (power), 23 (TOSC2) XTAL2 (out), 24 (TOSC1) XTAL1 (in), 25 PD0 (ICP1) (io), 26 PD1 (INT0) (io), 27 PD2 (io), 28 PD3 (io), 29 PD4 (io), 30 PD5 (io), 31 PD6 (io), 32 PD7 (io), 33 PG0 (io), 34 PG1 (io), 35 PC0 (io), 36 PC1 (io), 37 PC2 (io), 38 PC3 (io), 39 PC4 (io), 40 PC5 (io), 41 PC6 (io), 42 PC7 (io), 43 PG2 (io), 44 PA7 (io), 45 PA6 (io), 46 PA5 (io), 47 PA4 (io), 48 PA3 (io), 49 PA2 (io), 50 PA1 (io), 51 PA0 (io), 52 VCC (power), 53 GND (power), 54 PF7 (ADC7/TDI) (io), 55 PF6 (ADC6/TDO) (io), 56 PF5 (ADC5/TMS) (io), 57 PF4 (ADC4/TCK) (io), 58 PF3 (ADC3) (io), 59 PF2 (ADC2) (io), 60 PF1 (ADC1) (io), 61 PF0 (ADC0) (io), 62 AREF (power), 63 GND (power), 64 AVCC (power)

## ATmega645P-AUR
designator U?
8-bit AVR Microcontroller, 1.8-5.5V, 64KB Flash, 2KB EEPROM, 4KB SRAM, 64-pin TQFP, Industrial Grade (-40°C to 85°C), Reel; DatasheetVersion: revD, Jun-2011; PackageVersion: revC, Oct-2010; PackageReference: 64A; PackageDescription: 64-Pin Plastic Thin Profile Quad Flat Pack, 14 x 14 x 1.0 mm Body, 0.8 mm Pitch (TQFP); Code_JEDEC: MS-026-AEB; ComponentLink1Description: Manufacturer URL; ComponentLink1URL: http://www.atmel.com/; ComponentLink2Description: ATmega165A/PA/325A/PA/3250A/PA/645A/P/6450A/P Datasheet; ComponentLink2URL: http://www.atmel.com/dyn/resources/prod_documents/doc8285.pdf; ComponentLink3Description: ATmega165A/PA/325A/PA/3250A/PA/645A/P/6450A/P Summary; ComponentLink3URL: http://www.atmel.com/dyn/resources/prod_documents/8285S.pdf
footprint 64A_N (Thin QFP, 64-Leads, Body 14x14mm, Pitch 0.8mm, IPC Medium Density)
footprint 64A_L (Thin QFP, 64-Leads, Body 14x14mm, Pitch 0.8mm, IPC High Density)
footprint 64A_M (Thin QFP, 64-Leads, Body 14x14mm, Pitch 0.8mm, IPC Low Density)
pins: 1 DNC, 2 PE0 (RXD/PCINT0) (io), 3 PE1 (TXD/PCINT1) (io), 4 PE2 (XCK/AIN0/PCINT2) (io), 5 PE3 (AIN1/PCINT3) (io), 6 PE4 (USCK/SCL/PCINT4) (io), 7 PE5 (DI/SDA/PCINT5) (io), 8 PE6 (DO/PCINT6) (io), 9 PE7 (CLKO/PCINT7) (io), 10 PB0 (~{SS}/PCINT8) (io), 11 PB1 (SCK/PCINT9) (io), 12 PB2 (MOSI/PCINT10) (io), 13 PB3 (MISO/PCINT11) (io), 14 PB4 (OC0A/PCINT12) (io), 15 PB5 (OC1A/PCINT13) (io), 16 PB6 (OC1B/PCINT14) (io), 17 PB7 (OC2A/PCINT15) (io), 18 PG3 (T1) (io), 19 PG4 (T0) (io), 20 PG5/~{RESET} (io), 21 VCC (power), 22 GND (power), 23 (TOSC2) XTAL2 (out), 24 (TOSC1) XTAL1 (in), 25 PD0 (ICP1) (io), 26 PD1 (INT0) (io), 27 PD2 (io), 28 PD3 (io), 29 PD4 (io), 30 PD5 (io), 31 PD6 (io), 32 PD7 (io), 33 PG0 (io), 34 PG1 (io), 35 PC0 (io), 36 PC1 (io), 37 PC2 (io), 38 PC3 (io), 39 PC4 (io), 40 PC5 (io), 41 PC6 (io), 42 PC7 (io), 43 PG2 (io), 44 PA7 (io), 45 PA6 (io), 46 PA5 (io), 47 PA4 (io), 48 PA3 (io), 49 PA2 (io), 50 PA1 (io), 51 PA0 (io), 52 VCC (power), 53 GND (power), 54 PF7 (ADC7/TDI) (io), 55 PF6 (ADC6/TDO) (io), 56 PF5 (ADC5/TMS) (io), 57 PF4 (ADC4/TCK) (io), 58 PF3 (ADC3) (io), 59 PF2 (ADC2) (io), 60 PF1 (ADC1) (io), 61 PF0 (ADC0) (io), 62 AREF (power), 63 GND (power), 64 AVCC (power)

## ATmega645P-MU
designator U?
8-bit AVR Microcontroller, 1.8-5.5V, 64KB Flash, 2KB EEPROM, 4KB SRAM, 64-pin MLF, Industrial Grade (-40°C to 85°C); DatasheetVersion: revD, Jun-2011; PackageVersion: revH, Oct-2010; PackageReference: 64M1; PackageDescription: 64-Pin Micro Lead Frame Package (MLF), 9 x 9 x 1.0 mm Body, 0.5 mm Pitch, 5.40 mm Exposed Pad; Code_JEDEC: MO-220-VMMD; ComponentLink1Description: Manufacturer URL; ComponentLink1URL: http://www.atmel.com/; ComponentLink2Description: ATmega165A/PA/325A/PA/3250A/PA/645A/P/6450A/P Datasheet; ComponentLink2URL: http://www.atmel.com/dyn/resources/prod_documents/doc8285.pdf; ComponentLink3Description: ATmega165A/PA/325A/PA/3250A/PA/645A/P/6450A/P Summary; ComponentLink3URL: http://www.atmel.com/dyn/resources/prod_documents/8285S.pdf
footprint 64M1_N (QFN, 64-Leads, Body 9x9mm, Pitch 0.5mm, Thermal Pad 5.6x5.6mm, IPC Medium Density)
footprint 64M1_L (QFN, 64-Leads, Body 9x9mm, Pitch 0.5mm, Thermal Pad 5.6x5.6mm, IPC High Density)
footprint 64M1_M (QFN, 64-Leads, Body 9x9mm, Pitch 0.5mm, Thermal Pad 5.6x5.6mm, IPC Low Density)
pins: 1 DNC, 2 PE0 (RXD/PCINT0) (io), 3 PE1 (TXD/PCINT1) (io), 4 PE2 (XCK/AIN0/PCINT2) (io), 5 PE3 (AIN1/PCINT3) (io), 6 PE4 (USCK/SCL/PCINT4) (io), 7 PE5 (DI/SDA/PCINT5) (io), 8 PE6 (DO/PCINT6) (io), 9 PE7 (CLKO/PCINT7) (io), 10 PB0 (~{SS}/PCINT8) (io), 11 PB1 (SCK/PCINT9) (io), 12 PB2 (MOSI/PCINT10) (io), 13 PB3 (MISO/PCINT11) (io), 14 PB4 (OC0A/PCINT12) (io), 15 PB5 (OC1A/PCINT13) (io), 16 PB6 (OC1B/PCINT14) (io), 17 PB7 (OC2A/PCINT15) (io), 18 PG3 (T1) (io), 19 PG4 (T0) (io), 20 PG5/~{RESET} (io), 21 VCC (power), 22 GND (power), 23 (TOSC2) XTAL2 (out), 24 (TOSC1) XTAL1 (in), 25 PD0 (ICP1) (io), 26 PD1 (INT0) (io), 27 PD2 (io), 28 PD3 (io), 29 PD4 (io), 30 PD5 (io), 31 PD6 (io), 32 PD7 (io), 33 PG0 (io), 34 PG1 (io), 35 PC0 (io), 36 PC1 (io), 37 PC2 (io), 38 PC3 (io), 39 PC4 (io), 40 PC5 (io), 41 PC6 (io), 42 PC7 (io), 43 PG2 (io), 44 PA7 (io), 45 PA6 (io), 46 PA5 (io), 47 PA4 (io), 48 PA3 (io), 49 PA2 (io), 50 PA1 (io), 51 PA0 (io), 52 VCC (power), 53 GND (power), 54 PF7 (ADC7/TDI) (io), 55 PF6 (ADC6/TDO) (io), 56 PF5 (ADC5/TMS) (io), 57 PF4 (ADC4/TCK) (io), 58 PF3 (ADC3) (io), 59 PF2 (ADC2) (io), 60 PF1 (ADC1) (io), 61 PF0 (ADC0) (io), 62 AREF (power), 63 GND (power), 64 AVCC (power), 65 DAP (power)

## ATmega645P-MUR
designator U?
8-bit AVR Microcontroller, 1.8-5.5V, 64KB Flash, 2KB EEPROM, 4KB SRAM, 64-pin MLF, Industrial Grade (-40°C to 85°C), Reel; DatasheetVersion: revD, Jun-2011; PackageVersion: revH, Oct-2010; PackageReference: 64M1; PackageDescription: 64-Pin Micro Lead Frame Package (MLF), 9 x 9 x 1.0 mm Body, 0.5 mm Pitch, 5.40 mm Exposed Pad; Code_JEDEC: MO-220-VMMD; ComponentLink1Description: Manufacturer URL; ComponentLink1URL: http://www.atmel.com/; ComponentLink2Description: ATmega165A/PA/325A/PA/3250A/PA/645A/P/6450A/P Datasheet; ComponentLink2URL: http://www.atmel.com/dyn/resources/prod_documents/doc8285.pdf; ComponentLink3Description: ATmega165A/PA/325A/PA/3250A/PA/645A/P/6450A/P Summary; ComponentLink3URL: http://www.atmel.com/dyn/resources/prod_documents/8285S.pdf
footprint 64M1_N (QFN, 64-Leads, Body 9x9mm, Pitch 0.5mm, Thermal Pad 5.6x5.6mm, IPC Medium Density)
footprint 64M1_L (QFN, 64-Leads, Body 9x9mm, Pitch 0.5mm, Thermal Pad 5.6x5.6mm, IPC High Density)
footprint 64M1_M (QFN, 64-Leads, Body 9x9mm, Pitch 0.5mm, Thermal Pad 5.6x5.6mm, IPC Low Density)
pins: 1 DNC, 2 PE0 (RXD/PCINT0) (io), 3 PE1 (TXD/PCINT1) (io), 4 PE2 (XCK/AIN0/PCINT2) (io), 5 PE3 (AIN1/PCINT3) (io), 6 PE4 (USCK/SCL/PCINT4) (io), 7 PE5 (DI/SDA/PCINT5) (io), 8 PE6 (DO/PCINT6) (io), 9 PE7 (CLKO/PCINT7) (io), 10 PB0 (~{SS}/PCINT8) (io), 11 PB1 (SCK/PCINT9) (io), 12 PB2 (MOSI/PCINT10) (io), 13 PB3 (MISO/PCINT11) (io), 14 PB4 (OC0A/PCINT12) (io), 15 PB5 (OC1A/PCINT13) (io), 16 PB6 (OC1B/PCINT14) (io), 17 PB7 (OC2A/PCINT15) (io), 18 PG3 (T1) (io), 19 PG4 (T0) (io), 20 PG5/~{RESET} (io), 21 VCC (power), 22 GND (power), 23 (TOSC2) XTAL2 (out), 24 (TOSC1) XTAL1 (in), 25 PD0 (ICP1) (io), 26 PD1 (INT0) (io), 27 PD2 (io), 28 PD3 (io), 29 PD4 (io), 30 PD5 (io), 31 PD6 (io), 32 PD7 (io), 33 PG0 (io), 34 PG1 (io), 35 PC0 (io), 36 PC1 (io), 37 PC2 (io), 38 PC3 (io), 39 PC4 (io), 40 PC5 (io), 41 PC6 (io), 42 PC7 (io), 43 PG2 (io), 44 PA7 (io), 45 PA6 (io), 46 PA5 (io), 47 PA4 (io), 48 PA3 (io), 49 PA2 (io), 50 PA1 (io), 51 PA0 (io), 52 VCC (power), 53 GND (power), 54 PF7 (ADC7/TDI) (io), 55 PF6 (ADC6/TDO) (io), 56 PF5 (ADC5/TMS) (io), 57 PF4 (ADC4/TCK) (io), 58 PF3 (ADC3) (io), 59 PF2 (ADC2) (io), 60 PF1 (ADC1) (io), 61 PF0 (ADC0) (io), 62 AREF (power), 63 GND (power), 64 AVCC (power), 65 DAP (power)

## ATmega645V-8AI
designator U?
8-bit AVR Microcontroller, 1.8-5.5V, 64KB Flash, 2KB EEPROM, 4KB SRAM, 64-pin TQFP, Industrial Grade (-40°C to 85°C); DatasheetVersion: revL, Aug-2007; PackageVersion: revC, Oct-2010; PackageReference: 64A; PackageDescription: 64-Pin Plastic Thin Profile Quad Flat Pack, 14 x 14 x 1.0 mm Body, 0.8 mm Pitch (TQFP); Code_JEDEC: MS-026-AEB; ComponentLink1Description: Manufacturer URL; ComponentLink1URL: http://www.atmel.com/
footprint 64A_N (Thin QFP, 64-Leads, Body 14x14mm, Pitch 0.8mm, IPC Medium Density)
footprint 64A_L (Thin QFP, 64-Leads, Body 14x14mm, Pitch 0.8mm, IPC High Density)
footprint 64A_M (Thin QFP, 64-Leads, Body 14x14mm, Pitch 0.8mm, IPC Low Density)
pins: 1 DNC, 2 PE0 (RXD/PCINT0) (io), 3 PE1 (TXD/PCINT1) (io), 4 PE2 (XCK/AIN0/PCINT2) (io), 5 PE3 (AIN1/PCINT3) (io), 6 PE4 (USCK/SCL/PCINT4) (io), 7 PE5 (DI/SDA/PCINT5) (io), 8 PE6 (DO/PCINT6) (io), 9 PE7 (CLKO/PCINT7) (io), 10 PB0 (~{SS}/PCINT8) (io), 11 PB1 (SCK/PCINT9) (io), 12 PB2 (MOSI/PCINT10) (io), 13 PB3 (MISO/PCINT11) (io), 14 PB4 (OC0A/PCINT12) (io), 15 PB5 (OC1A/PCINT13) (io), 16 PB6 (OC1B/PCINT14) (io), 17 PB7 (OC2A/PCINT15) (io), 18 PG3 (T1) (io), 19 PG4 (T0) (io), 20 PG5/~{RESET} (io), 21 VCC (power), 22 GND (power), 23 (TOSC2) XTAL2 (out), 24 (TOSC1) XTAL1 (in), 25 PD0 (ICP1) (io), 26 PD1 (INT0) (io), 27 PD2 (io), 28 PD3 (io), 29 PD4 (io), 30 PD5 (io), 31 PD6 (io), 32 PD7 (io), 33 PG0 (io), 34 PG1 (io), 35 PC0 (io), 36 PC1 (io), 37 PC2 (io), 38 PC3 (io), 39 PC4 (io), 40 PC5 (io), 41 PC6 (io), 42 PC7 (io), 43 PG2 (io), 44 PA7 (io), 45 PA6 (io), 46 PA5 (io), 47 PA4 (io), 48 PA3 (io), 49 PA2 (io), 50 PA1 (io), 51 PA0 (io), 52 VCC (power), 53 GND (power), 54 PF7 (ADC7/TDI) (io), 55 PF6 (ADC6/TDO) (io), 56 PF5 (ADC5/TMS) (io), 57 PF4 (ADC4/TCK) (io), 58 PF3 (ADC3) (io), 59 PF2 (ADC2) (io), 60 PF1 (ADC1) (io), 61 PF0 (ADC0) (io), 62 AREF (power), 63 GND (power), 64 AVCC (power)

## ATmega645V-8AU
designator U?
8-bit AVR Microcontroller, 1.8-5.5V, 64KB Flash, 2KB EEPROM, 4KB SRAM, 64-pin TQFP, Industrial Grade (-40°C to 85°C); DatasheetVersion: revN, May-2011; PackageVersion: revC, Oct-2010; PackageReference: 64A; PackageDescription: 64-Pin Plastic Thin Profile Quad Flat Pack, 14 x 14 x 1.0 mm Body, 0.8 mm Pitch (TQFP); Code_JEDEC: MS-026-AEB; ComponentLink1Description: Manufacturer URL; ComponentLink1URL: http://www.atmel.com/; ComponentLink2Description: ATmega325/3250/645/6450 Datasheet; ComponentLink2URL: http://www.atmel.com/dyn/resources/prod_documents/doc2570.pdf; ComponentLink3Description: ATmega325/3250/645/6540 Summary; ComponentLink3URL: http://www.atmel.com/dyn/resources/prod_documents/2570S.pdf
footprint 64A_N (Thin QFP, 64-Leads, Body 14x14mm, Pitch 0.8mm, IPC Medium Density)
footprint 64A_L (Thin QFP, 64-Leads, Body 14x14mm, Pitch 0.8mm, IPC High Density)
footprint 64A_M (Thin QFP, 64-Leads, Body 14x14mm, Pitch 0.8mm, IPC Low Density)
pins: 1 DNC, 2 PE0 (RXD/PCINT0) (io), 3 PE1 (TXD/PCINT1) (io), 4 PE2 (XCK/AIN0/PCINT2) (io), 5 PE3 (AIN1/PCINT3) (io), 6 PE4 (USCK/SCL/PCINT4) (io), 7 PE5 (DI/SDA/PCINT5) (io), 8 PE6 (DO/PCINT6) (io), 9 PE7 (CLKO/PCINT7) (io), 10 PB0 (~{SS}/PCINT8) (io), 11 PB1 (SCK/PCINT9) (io), 12 PB2 (MOSI/PCINT10) (io), 13 PB3 (MISO/PCINT11) (io), 14 PB4 (OC0A/PCINT12) (io), 15 PB5 (OC1A/PCINT13) (io), 16 PB6 (OC1B/PCINT14) (io), 17 PB7 (OC2A/PCINT15) (io), 18 PG3 (T1) (io), 19 PG4 (T0) (io), 20 PG5/~{RESET} (io), 21 VCC (power), 22 GND (power), 23 (TOSC2) XTAL2 (out), 24 (TOSC1) XTAL1 (in), 25 PD0 (ICP1) (io), 26 PD1 (INT0) (io), 27 PD2 (io), 28 PD3 (io), 29 PD4 (io), 30 PD5 (io), 31 PD6 (io), 32 PD7 (io), 33 PG0 (io), 34 PG1 (io), 35 PC0 (io), 36 PC1 (io), 37 PC2 (io), 38 PC3 (io), 39 PC4 (io), 40 PC5 (io), 41 PC6 (io), 42 PC7 (io), 43 PG2 (io), 44 PA7 (io), 45 PA6 (io), 46 PA5 (io), 47 PA4 (io), 48 PA3 (io), 49 PA2 (io), 50 PA1 (io), 51 PA0 (io), 52 VCC (power), 53 GND (power), 54 PF7 (ADC7/TDI) (io), 55 PF6 (ADC6/TDO) (io), 56 PF5 (ADC5/TMS) (io), 57 PF4 (ADC4/TCK) (io), 58 PF3 (ADC3) (io), 59 PF2 (ADC2) (io), 60 PF1 (ADC1) (io), 61 PF0 (ADC0) (io), 62 AREF (power), 63 GND (power), 64 AVCC (power)

## ATmega645V-8AUR
designator U?
8-bit AVR Microcontroller, 1.8-5.5V, 64KB Flash, 2KB EEPROM, 4KB SRAM, 64-pin TQFP, Industrial Grade (-40°C to 85°C), Reel; DatasheetVersion: revN, May-2011; PackageVersion: revC, Oct-2010; PackageReference: 64A; PackageDescription: 64-Pin Plastic Thin Profile Quad Flat Pack, 14 x 14 x 1.0 mm Body, 0.8 mm Pitch (TQFP); Code_JEDEC: MS-026-AEB; ComponentLink1Description: Manufacturer URL; ComponentLink1URL: http://www.atmel.com/; ComponentLink2Description: ATmega325/3250/645/6450 Datasheet; ComponentLink2URL: http://www.atmel.com/dyn/resources/prod_documents/doc2570.pdf; ComponentLink3Description: ATmega325/3250/645/6540 Summary; ComponentLink3URL: http://www.atmel.com/dyn/resources/prod_documents/2570S.pdf
footprint 64A_N (Thin QFP, 64-Leads, Body 14x14mm, Pitch 0.8mm, IPC Medium Density)
footprint 64A_L (Thin QFP, 64-Leads, Body 14x14mm, Pitch 0.8mm, IPC High Density)
footprint 64A_M (Thin QFP, 64-Leads, Body 14x14mm, Pitch 0.8mm, IPC Low Density)
pins: 1 DNC, 2 PE0 (RXD/PCINT0) (io), 3 PE1 (TXD/PCINT1) (io), 4 PE2 (XCK/AIN0/PCINT2) (io), 5 PE3 (AIN1/PCINT3) (io), 6 PE4 (USCK/SCL/PCINT4) (io), 7 PE5 (DI/SDA/PCINT5) (io), 8 PE6 (DO/PCINT6) (io), 9 PE7 (CLKO/PCINT7) (io), 10 PB0 (~{SS}/PCINT8) (io), 11 PB1 (SCK/PCINT9) (io), 12 PB2 (MOSI/PCINT10) (io), 13 PB3 (MISO/PCINT11) (io), 14 PB4 (OC0A/PCINT12) (io), 15 PB5 (OC1A/PCINT13) (io), 16 PB6 (OC1B/PCINT14) (io), 17 PB7 (OC2A/PCINT15) (io), 18 PG3 (T1) (io), 19 PG4 (T0) (io), 20 PG5/~{RESET} (io), 21 VCC (power), 22 GND (power), 23 (TOSC2) XTAL2 (out), 24 (TOSC1) XTAL1 (in), 25 PD0 (ICP1) (io), 26 PD1 (INT0) (io), 27 PD2 (io), 28 PD3 (io), 29 PD4 (io), 30 PD5 (io), 31 PD6 (io), 32 PD7 (io), 33 PG0 (io), 34 PG1 (io), 35 PC0 (io), 36 PC1 (io), 37 PC2 (io), 38 PC3 (io), 39 PC4 (io), 40 PC5 (io), 41 PC6 (io), 42 PC7 (io), 43 PG2 (io), 44 PA7 (io), 45 PA6 (io), 46 PA5 (io), 47 PA4 (io), 48 PA3 (io), 49 PA2 (io), 50 PA1 (io), 51 PA0 (io), 52 VCC (power), 53 GND (power), 54 PF7 (ADC7/TDI) (io), 55 PF6 (ADC6/TDO) (io), 56 PF5 (ADC5/TMS) (io), 57 PF4 (ADC4/TCK) (io), 58 PF3 (ADC3) (io), 59 PF2 (ADC2) (io), 60 PF1 (ADC1) (io), 61 PF0 (ADC0) (io), 62 AREF (power), 63 GND (power), 64 AVCC (power)